# Altium schematic symbol library En.SCHLIB: 249 symbols (part 4 of 5)
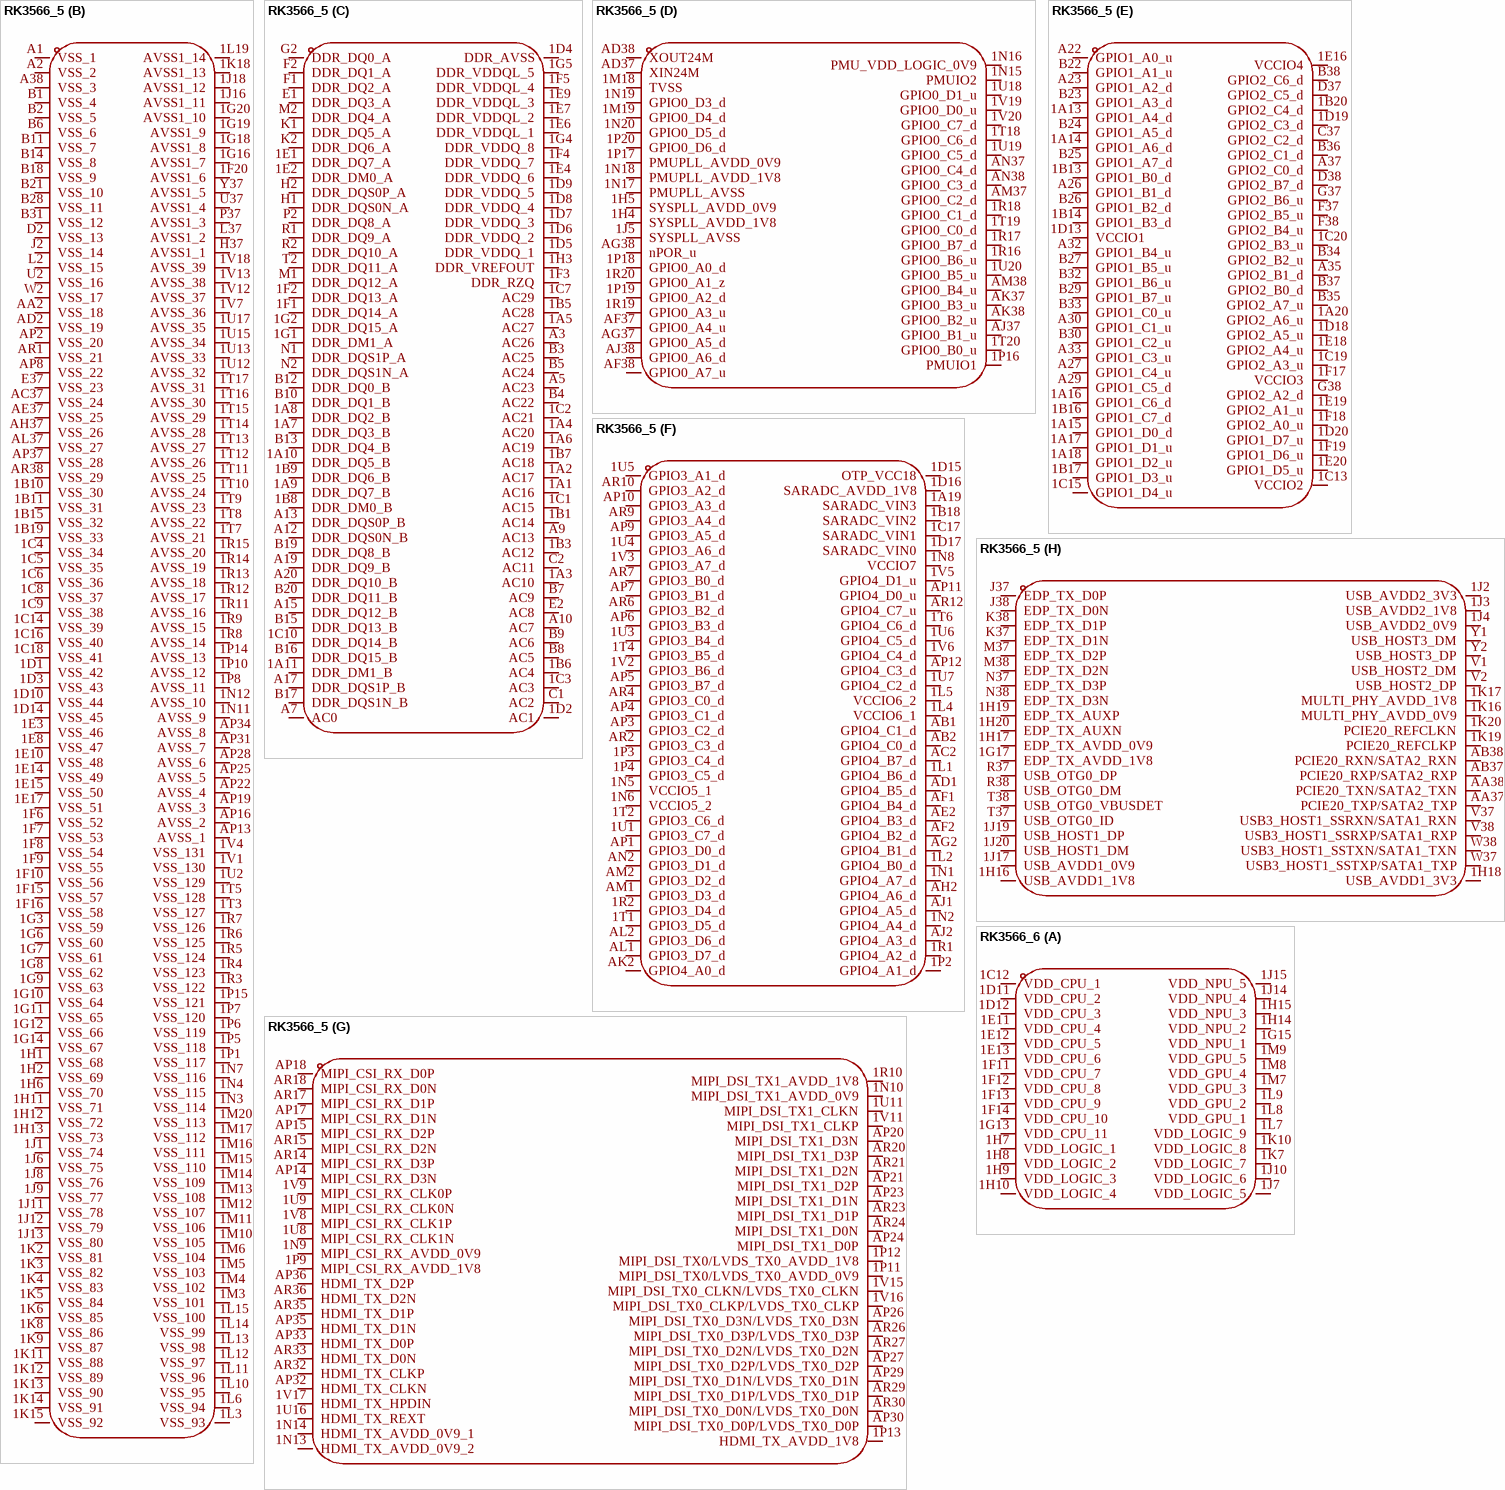
[diagram p22: symbols RK3566_5 to RK3566_6]

## RK3566_5
designator U?, comment RK3566  (value not drawn)
Manufacturer: Rockchip(瑞芯微); Add into BOM: yes; Symbol: RK3566; Device: RK3566; LCSC Part Name: RK3566; Supplier Part: C2943786; Manufacturer Part: RK3566; Supplier Footprint: BGA-565(15.5x14.4); JLCPCB Part Class: Extended Part; Datasheet: https://atta.szlcsc.com/upload/public/pdf/source/20240126/58C1D355804B22318A1D6A9C85EA3A92.pdf; Supplier: LCSC; Convert to PCB: yes
footprint BGA-565_L15.5-W14.4-P0.40_RK3566_1
3D model BGA-565_L15.5-W14.4-P0.40_RK3566_1
part A pins: 1C12 VDD_CPU_1, 1D11 VDD_CPU_2, 1D12 VDD_CPU_3, 1E11 VDD_CPU_4, 1E12 VDD_CPU_5, 1E13 VDD_CPU_6, 1F11 VDD_CPU_7, 1F12 VDD_CPU_8, 1F13 VDD_CPU_9, 1F14 VDD_CPU_10, 1G13 VDD_CPU_11, 1G15 VDD_NPU_1, 1H7 VDD_LOGIC_1, 1H8 VDD_LOGIC_2, 1H9 VDD_LOGIC_3, 1H10 VDD_LOGIC_4, 1H14 VDD_NPU_2, 1H15 VDD_NPU_3, 1J7 VDD_LOGIC_5, 1J10 VDD_LOGIC_6, 1J14 VDD_NPU_4, 1J15 VDD_NPU_5, 1K7 VDD_LOGIC_7, 1K10 VDD_LOGIC_8, 1L7 VDD_LOGIC_9, 1L8 VDD_GPU_1, 1L9 VDD_GPU_2, 1M7 VDD_GPU_3, 1M8 VDD_GPU_4, 1M9 VDD_GPU_5
part B pins: 1B10 VSS_30, 1B11 VSS_31, 1B15 VSS_32, 1B19 VSS_33, 1C4 VSS_34, 1C5 VSS_35, 1C6 VSS_36, 1C8 VSS_37, 1C9 VSS_38, 1C14 VSS_39, 1C16 VSS_40, 1C18 VSS_41, 1D1 VSS_42, 1D3 VSS_43, 1D10 VSS_44, 1D14 VSS_45, 1E3 VSS_46, 1E8 VSS_47, 1E10 VSS_48, 1E14 VSS_49, 1E15 VSS_50, 1E17 VSS_51, 1F6 VSS_52, 1F7 VSS_53, 1F8 VSS_54, 1F9 VSS_55, 1F10 VSS_56, 1F15 VSS_57, 1F16 VSS_58, 1F20 AVSS1_6, 1G3 VSS_59, 1G6 VSS_60, 1G7 VSS_61, 1G8 VSS_62, 1G9 VSS_63, 1G10 VSS_64, 1G11 VSS_65, 1G12 VSS_66, 1G14 VSS_67, 1G16 AVSS1_7, 1G18 AVSS1_8, 1G19 AVSS1_9, 1G20 AVSS1_10, 1H1 VSS_68, 1H2 VSS_69, 1H6 VSS_70, 1H11 VSS_71, 1H12 VSS_72, 1H13 VSS_73, 1J1 VSS_74, 1J6 VSS_75, 1J8 VSS_76, 1J9 VSS_77, 1J11 VSS_78, 1J12 VSS_79, 1J13 VSS_80, 1J16 AVSS1_11, 1J18 AVSS1_12, 1K2 VSS_81, 1K3 VSS_82, 1K4 VSS_83, 1K5 VSS_84, 1K6 VSS_85, 1K8 VSS_86, 1K9 VSS_87, 1K11 VSS_88, 1K12 VSS_89, 1K13 VSS_90, 1K14 VSS_91, 1K15 VSS_92, 1K18 AVSS1_13, 1L3 VSS_93, 1L6 VSS_94, 1L10 VSS_95, 1L11 VSS_96, 1L12 VSS_97, 1L13 VSS_98, 1L14 VSS_99, 1L15 VSS_100, 1L19 AVSS1_14, 1M3 VSS_101, 1M4 VSS_102, 1M5 VSS_103, 1M6 VSS_104, 1M10 VSS_105, 1M11 VSS_106, 1M12 VSS_107, 1M13 VSS_108, 1M14 VSS_109, 1M15 VSS_110, 1M16 VSS_111, 1M17 VSS_112, 1M20 VSS_113, 1N3 VSS_114, 1N4 VSS_115, 1N7 VSS_116, 1N11 AVSS_9, 1N12 AVSS_10, 1P1 VSS_117, 1P5 VSS_118, 1P6 VSS_119, 1P7 VSS_120, 1P8 AVSS_11, 1P10 AVSS_12, 1P14 AVSS_13, 1P15 VSS_121, 1R3 VSS_122, 1R4 VSS_123, 1R5 VSS_124, 1R6 VSS_125, 1R7 VSS_126, 1R8 AVSS_14, 1R9 AVSS_15, 1R11 AVSS_16, 1R12 AVSS_17, 1R13 AVSS_18, 1R14 AVSS_19, 1R15 AVSS_20, 1T3 VSS_127, 1T5 VSS_128, 1T7 AVSS_21, 1T8 AVSS_22, 1T9 AVSS_23, 1T10 AVSS_24, 1T11 AVSS_25, 1T12 AVSS_26, 1T13 AVSS_27, 1T14 AVSS_28, 1T15 AVSS_29, 1T16 AVSS_30, 1T17 AVSS_31, 1U2 VSS_129, 1U12 AVSS_32, 1U13 AVSS_33, 1U15 AVSS_34, 1U17 AVSS_35, 1V1 VSS_130, 1V4 VSS_131, 1V7 AVSS_36, 1V12 AVSS_37, 1V13 AVSS_38, 1V18 AVSS_39, A1 VSS_1, A2 VSS_2, A38 VSS_3, AA2 VSS_18, AC37 VSS_24, AD2 VSS_19, AE37 VSS_25, AH37 VSS_26, AL37 VSS_27, AP2 VSS_20, AP8 VSS_22, AP13 AVSS_1, AP16 AVSS_2, AP19 AVSS_3, AP22 AVSS_4, AP25 AVSS_5, AP28 AVSS_6, AP31 AVSS_7, AP34 AVSS_8, AP37 VSS_28, AR1 VSS_21, AR38 VSS_29, B1 VSS_4, B2 VSS_5, B6 VSS_6, B11 VSS_7, B14 VSS_8, B18 VSS_9, B21 VSS_10, B28 VSS_11, B31 VSS_12, D2 VSS_13, E37 VSS_23, H37 AVSS1_1, J2 VSS_14, L2 VSS_15, L37 AVSS1_2, P37 AVSS1_3, U2 VSS_16, U37 AVSS1_4, W2 VSS_17, Y37 AVSS1_5
part C pins: 1A1 AC16, 1A2 AC17, 1A3 AC10, 1A4 AC20, 1A5 AC27, 1A6 AC19, 1A7 DDR_DQ3_B, 1A8 DDR_DQ2_B, 1A9 DDR_DQ7_B, 1A10 DDR_DQ5_B, 1A11 DDR_DM1_B, 1B1 AC14, 1B3 AC12, 1B5 AC28, 1B6 AC4, 1B7 AC18, 1B8 DDR_DM0_B, 1B9 DDR_DQ6_B, 1C1 AC15, 1C2 AC21, 1C3 AC3, 1C7 AC29, 1C10 DDR_DQ14_B, 1D2 AC1, 1D4 DDR_AVSS, 1D5 DDR_VDDQ_1, 1D6 DDR_VDDQ_2, 1D7 DDR_VDDQ_3, 1D8 DDR_VDDQ_4, 1D9 DDR_VDDQ_5, 1E1 DDR_DQ7_A, 1E2 DDR_DM0_A, 1E4 DDR_VDDQ_6, 1E6 DDR_VDDQL_1, 1E7 DDR_VDDQL_2, 1E9 DDR_VDDQL_3, 1F1 DDR_DQ14_A, 1F2 DDR_DQ13_A, 1F3 DDR_RZQ, 1F4 DDR_VDDQ_7, 1F5 DDR_VDDQL_4, 1G1 DDR_DM1_A, 1G2 DDR_DQ15_A, 1G4 DDR_VDDQ_8, 1G5 DDR_VDDQL_5, 1H3 DDR_VREFOUT, A3 AC26, A5 AC23, A7 AC0, A9 AC13, A10 AC7, A12 DDR_DQS0N_B, A13 DDR_DQS0P_B, A15 DDR_DQ12_B, A17 DDR_DQS1P_B, A19 DDR_DQ9_B, A20 DDR_DQ10_B, B3 AC25, B4 AC22, B5 AC24, B7 AC9, B8 AC5, B9 AC6, B10 DDR_DQ1_B, B12 DDR_DQ0_B, B13 DDR_DQ4_B, B15 DDR_DQ13_B, B16 DDR_DQ15_B, B17 DDR_DQS1N_B, B19 DDR_DQ8_B, B20 DDR_DQ11_B, C1 AC2, C2 AC11, E1 DDR_DQ3_A, E2 AC8, F1 DDR_DQ2_A, F2 DDR_DQ1_A, G2 DDR_DQ0_A, H1 DDR_DQS0N_A, H2 DDR_DQS0P_A, K1 DDR_DQ5_A, K2 DDR_DQ6_A, M1 DDR_DQ12_A, M2 DDR_DQ4_A, N1 DDR_DQS1P_A, N2 DDR_DQS1N_A, P2 DDR_DQ8_A, R1 DDR_DQ9_A, R2 DDR_DQ10_A, T2 DDR_DQ11_A
part D pins: 1H4 SYSPLL_AVDD_1V8, 1H5 SYSPLL_AVDD_0V9, 1J5 SYSPLL_AVSS, 1M18 TVSS, 1M19 GPIO0_D4_d, 1N15 PMUIO2, 1N16 PMU_VDD_LOGIC_0V9, 1N17 PMUPLL_AVSS, 1N18 PMUPLL_AVDD_1V8, 1N19 GPIO0_D3_d, 1N20 GPIO0_D5_d, 1P16 PMUIO1, 1P17 PMUPLL_AVDD_0V9, 1P18 GPIO0_A0_d, 1P19 GPIO0_A2_d, 1P20 GPIO0_D6_d, 1R16 GPIO0_B6_u, 1R17 GPIO0_B7_d, 1R18 GPIO0_C1_d, 1R19 GPIO0_A3_u, 1R20 GPIO0_A1_z, 1T18 GPIO0_C6_d, 1T19 GPIO0_C0_d, 1T20 GPIO0_B0_u, 1U18 GPIO0_D1_u, 1U19 GPIO0_C5_d, 1U20 GPIO0_B5_u, 1V19 GPIO0_D0_u, 1V20 GPIO0_C7_d, AD37 XIN24M, AD38 XOUT24M, AF37 GPIO0_A4_u, AF38 GPIO0_A7_u, AG37 GPIO0_A5_d, AG38 nPOR_u, AJ37 GPIO0_B1_u, AJ38 GPIO0_A6_d, AK37 GPIO0_B3_u, AK38 GPIO0_B2_u, AM37 GPIO0_C2_d, AM38 GPIO0_B4_u, AN37 GPIO0_C4_d, AN38 GPIO0_C3_d
part E pins: 1A13 GPIO1_A4_d, 1A14 GPIO1_A6_d, 1A15 GPIO1_D0_d, 1A16 GPIO1_C6_d, 1A17 GPIO1_D1_u, 1A18 GPIO1_D2_u, 1A20 GPIO2_A6_u, 1B13 GPIO1_B0_d, 1B14 GPIO1_B3_d, 1B16 GPIO1_C7_d, 1B17 GPIO1_D3_u, 1B20 GPIO2_C4_d, 1C13 VCCIO2, 1C15 GPIO1_D4_u, 1C19 GPIO2_A3_u, 1C20 GPIO2_B3_u, 1D13 VCCIO1, 1D18 GPIO2_A5_u, 1D19 GPIO2_C3_d, 1D20 GPIO1_D7_u, 1E16 VCCIO4, 1E18 GPIO2_A4_u, 1E19 GPIO2_A1_u, 1E20 GPIO1_D5_u, 1F17 VCCIO3, 1F18 GPIO2_A0_u, 1F19 GPIO1_D6_u, A22 GPIO1_A0_u, A23 GPIO1_A2_d, A26 GPIO1_B1_d, A27 GPIO1_C4_u, A29 GPIO1_C5_d, A30 GPIO1_C1_u, A32 GPIO1_B4_u, A33 GPIO1_C3_u, A35 GPIO2_B1_d, A37 GPIO2_C0_d, B22 GPIO1_A1_u, B23 GPIO1_A3_d, B24 GPIO1_A5_d, B25 GPIO1_A7_d, B26 GPIO1_B2_d, B27 GPIO1_B5_u, B29 GPIO1_B7_u, B30 GPIO1_C2_u, B32 GPIO1_B6_u, B33 GPIO1_C0_u, B34 GPIO2_B2_u, B35 GPIO2_A7_u, B36 GPIO2_C1_d, B37 GPIO2_B0_d, B38 GPIO2_C6_d, C37 GPIO2_C2_d, D37 GPIO2_C5_d, D38 GPIO2_B7_d, F37 GPIO2_B5_u, F38 GPIO2_B4_u, G37 GPIO2_B6_u, G38 GPIO2_A2_d
part F pins: 1A19 SARADC_VIN3, 1B18 SARADC_VIN2, 1C17 SARADC_VIN1, 1D15 OTP_VCC18, 1D16 SARADC_AVDD_1V8, 1D17 SARADC_VIN0, 1L1 GPIO4_B6_d, 1L2 GPIO4_B0_d, 1L4 VCCIO6_1, 1L5 VCCIO6_2, 1N1 GPIO4_A7_d, 1N2 GPIO4_A4_d, 1N5 VCCIO5_1, 1N6 VCCIO5_2, 1N8 VCCIO7, 1P2 GPIO4_A1_d, 1P3 GPIO3_C4_d, 1P4 GPIO3_C5_d, 1R1 GPIO4_A2_d, 1R2 GPIO3_D4_d, 1T1 GPIO3_D5_d, 1T2 GPIO3_C6_d, 1T4 GPIO3_B5_d, 1T6 GPIO4_C6_d, 1U1 GPIO3_C7_d, 1U3 GPIO3_B4_d, 1U4 GPIO3_A6_d, 1U5 GPIO3_A1_d, 1U6 GPIO4_C5_d, 1U7 GPIO4_C2_d, 1V2 GPIO3_B6_d, 1V3 GPIO3_A7_d, 1V5 GPIO4_D1_u, 1V6 GPIO4_C4_d, AB1 GPIO4_C1_d, AB2 GPIO4_C0_d, AC2 GPIO4_B7_d, AD1 GPIO4_B5_d, AE2 GPIO4_B3_d, AF1 GPIO4_B4_d, AF2 GPIO4_B2_d, AG2 GPIO4_B1_d, AH2 GPIO4_A6_d, AJ1 GPIO4_A5_d, AJ2 GPIO4_A3_d, AK2 GPIO4_A0_d, AL1 GPIO3_D7_d, AL2 GPIO3_D6_d, AM1 GPIO3_D3_d, AM2 GPIO3_D2_d, AN2 GPIO3_D1_d, AP1 GPIO3_D0_d, AP3 GPIO3_C2_d, AP4 GPIO3_C1_d, AP5 GPIO3_B7_d, AP6 GPIO3_B3_d, AP7 GPIO3_B1_d, AP9 GPIO3_A5_d, AP10 GPIO3_A3_d, AP11 GPIO4_D0_u, AP12 GPIO4_C3_d, AR2 GPIO3_C3_d, AR4 GPIO3_C0_d, AR6 GPIO3_B2_d, AR7 GPIO3_B0_d, AR9 GPIO3_A4_d, AR10 GPIO3_A2_d, AR12 GPIO4_C7_u
part G pins: 1N9 MIPI_CSI_RX_AVDD_0V9, 1N10 MIPI_DSI_TX1_AVDD_0V9, 1N13 HDMI_TX_AVDD_0V9_2, 1N14 HDMI_TX_AVDD_0V9_1, 1P9 MIPI_CSI_RX_AVDD_1V8, 1P11 MIPI_DSI_TX0/LVDS_TX0_AVDD_0V9, 1P12 MIPI_DSI_TX0/LVDS_TX0_AVDD_1V8, 1P13 HDMI_TX_AVDD_1V8, 1R10 MIPI_DSI_TX1_AVDD_1V8, 1U8 MIPI_CSI_RX_CLK1N, 1U9 MIPI_CSI_RX_CLK0N, 1U11 MIPI_DSI_TX1_CLKN, 1U16 HDMI_TX_REXT, 1V8 MIPI_CSI_RX_CLK1P, 1V9 MIPI_CSI_RX_CLK0P, 1V11 MIPI_DSI_TX1_CLKP, 1V15 MIPI_DSI_TX0_CLKN/LVDS_TX0_CLKN, 1V16 MIPI_DSI_TX0_CLKP/LVDS_TX0_CLKP, 1V17 HDMI_TX_HPDIN, AP14 MIPI_CSI_RX_D3N, AP15 MIPI_CSI_RX_D2P, AP17 MIPI_CSI_RX_D1N, AP18 MIPI_CSI_RX_D0P, AP20 MIPI_DSI_TX1_D3N, AP21 MIPI_DSI_TX1_D2P, AP23 MIPI_DSI_TX1_D1N, AP24 MIPI_DSI_TX1_D0P, AP26 MIPI_DSI_TX0_D3N/LVDS_TX0_D3N, AP27 MIPI_DSI_TX0_D2P/LVDS_TX0_D2P, AP29 MIPI_DSI_TX0_D1N/LVDS_TX0_D1N, AP30 MIPI_DSI_TX0_D0P/LVDS_TX0_D0P, AP32 HDMI_TX_CLKN, AP33 HDMI_TX_D0P, AP35 HDMI_TX_D1N, AP36 HDMI_TX_D2P, AR14 MIPI_CSI_RX_D3P, AR15 MIPI_CSI_RX_D2N, AR17 MIPI_CSI_RX_D1P, AR18 MIPI_CSI_RX_D0N, AR20 MIPI_DSI_TX1_D3P, AR21 MIPI_DSI_TX1_D2N, AR23 MIPI_DSI_TX1_D1P, AR24 MIPI_DSI_TX1_D0N, AR26 MIPI_DSI_TX0_D3P/LVDS_TX0_D3P, AR27 MIPI_DSI_TX0_D2N/LVDS_TX0_D2N, AR29 MIPI_DSI_TX0_D1P/LVDS_TX0_D1P, AR30 MIPI_DSI_TX0_D0N/LVDS_TX0_D0N, AR32 HDMI_TX_CLKP, AR33 HDMI_TX_D0N, AR35 HDMI_TX_D1P, AR36 HDMI_TX_D2N
part H pins: 1G17 EDP_TX_AVDD_1V8, 1H16 USB_AVDD1_1V8, 1H17 EDP_TX_AVDD_0V9, 1H18 USB_AVDD1_3V3, 1H19 EDP_TX_AUXP, 1H20 EDP_TX_AUXN, 1J2 USB_AVDD2_3V3, 1J3 USB_AVDD2_1V8, 1J4 USB_AVDD2_0V9, 1J17 USB_AVDD1_0V9, 1J19 USB_HOST1_DP, 1J20 USB_HOST1_DM, 1K16 MULTI_PHY_AVDD_0V9, 1K17 MULTI_PHY_AVDD_1V8, 1K19 PCIE20_REFCLKP, 1K20 PCIE20_REFCLKN, AA37 PCIE20_TXP/SATA2_TXP, AA38 PCIE20_TXN/SATA2_TXN, AB37 PCIE20_RXP/SATA2_RXP, AB38 PCIE20_RXN/SATA2_RXN, J37 EDP_TX_D0P, J38 EDP_TX_D0N, K37 EDP_TX_D1N, K38 EDP_TX_D1P, M37 EDP_TX_D2P, M38 EDP_TX_D2N, N37 EDP_TX_D3P, N38 EDP_TX_D3N, R37 USB_OTG0_DP, R38 USB_OTG0_DM, T37 USB_OTG0_ID, T38 USB_OTG0_VBUSDET, V1 USB_HOST2_DM, V2 USB_HOST2_DP, V37 USB3_HOST1_SSRXN/SATA1_RXN, V38 USB3_HOST1_SSRXP/SATA1_RXP, W37 USB3_HOST1_SSTXP/SATA1_TXP, W38 USB3_HOST1_SSTXN/SATA1_TXN, Y1 USB_HOST3_DM, Y2 USB_HOST3_DP

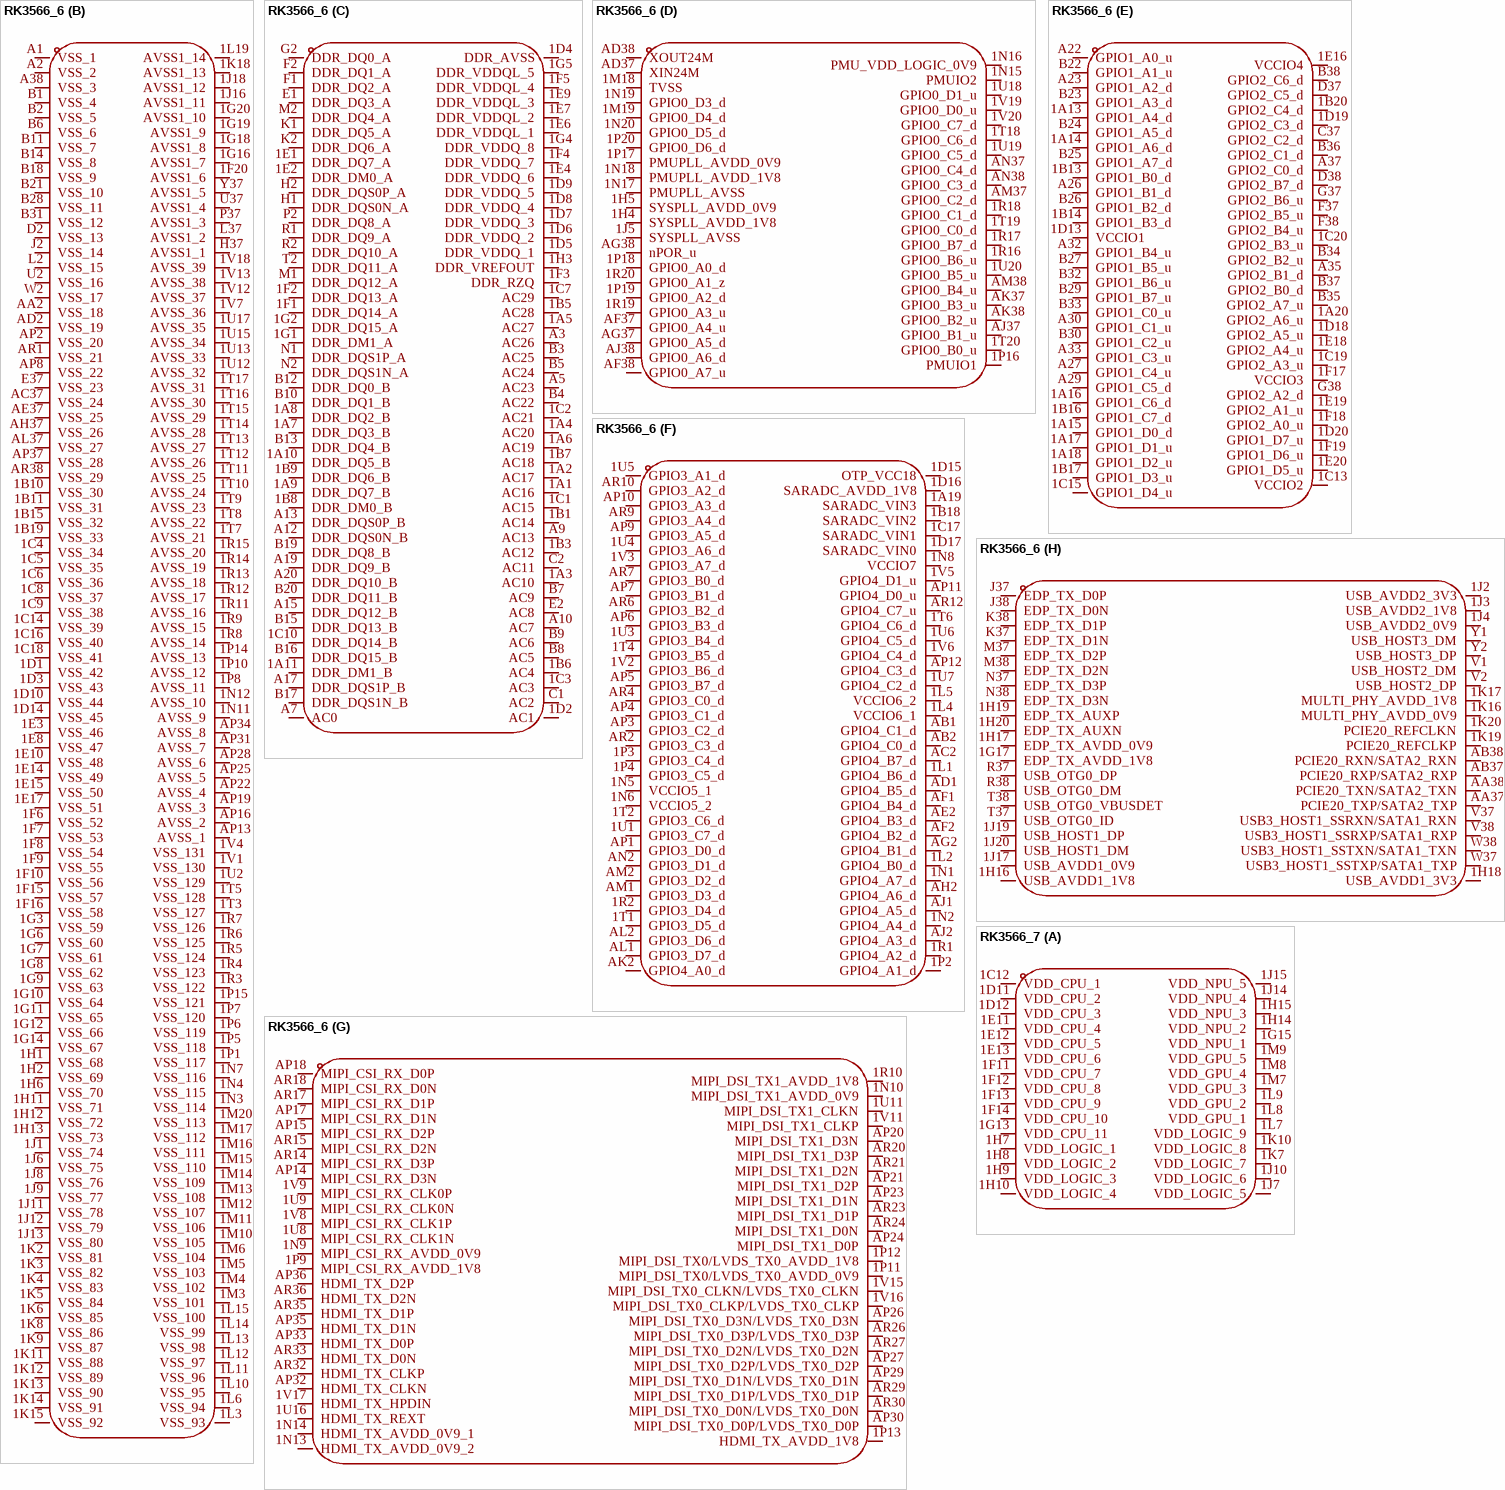
[diagram p13: symbols RK3566_6 to RK3566_7]

## RK3566_6
designator U?, comment RK3566  (value not drawn)
Manufacturer: Rockchip(瑞芯微); Add into BOM: yes; Symbol: RK3566; Device: RK3566; LCSC Part Name: RK3566; Supplier Part: C2943786; Manufacturer Part: RK3566; Supplier Footprint: BGA-565(15.5x14.4); JLCPCB Part Class: Extended Part; Datasheet: https://atta.szlcsc.com/upload/public/pdf/source/20240126/58C1D355804B22318A1D6A9C85EA3A92.pdf; Supplier: LCSC; Convert to PCB: yes
footprint BGA-565_L15.5-W14.4-P0.40_RK3566_1
3D model BGA-565_L15.5-W14.4-P0.40_RK3566_1
part A pins: 1C12 VDD_CPU_1, 1D11 VDD_CPU_2, 1D12 VDD_CPU_3, 1E11 VDD_CPU_4, 1E12 VDD_CPU_5, 1E13 VDD_CPU_6, 1F11 VDD_CPU_7, 1F12 VDD_CPU_8, 1F13 VDD_CPU_9, 1F14 VDD_CPU_10, 1G13 VDD_CPU_11, 1G15 VDD_NPU_1, 1H7 VDD_LOGIC_1, 1H8 VDD_LOGIC_2, 1H9 VDD_LOGIC_3, 1H10 VDD_LOGIC_4, 1H14 VDD_NPU_2, 1H15 VDD_NPU_3, 1J7 VDD_LOGIC_5, 1J10 VDD_LOGIC_6, 1J14 VDD_NPU_4, 1J15 VDD_NPU_5, 1K7 VDD_LOGIC_7, 1K10 VDD_LOGIC_8, 1L7 VDD_LOGIC_9, 1L8 VDD_GPU_1, 1L9 VDD_GPU_2, 1M7 VDD_GPU_3, 1M8 VDD_GPU_4, 1M9 VDD_GPU_5
part B pins: 1B10 VSS_30, 1B11 VSS_31, 1B15 VSS_32, 1B19 VSS_33, 1C4 VSS_34, 1C5 VSS_35, 1C6 VSS_36, 1C8 VSS_37, 1C9 VSS_38, 1C14 VSS_39, 1C16 VSS_40, 1C18 VSS_41, 1D1 VSS_42, 1D3 VSS_43, 1D10 VSS_44, 1D14 VSS_45, 1E3 VSS_46, 1E8 VSS_47, 1E10 VSS_48, 1E14 VSS_49, 1E15 VSS_50, 1E17 VSS_51, 1F6 VSS_52, 1F7 VSS_53, 1F8 VSS_54, 1F9 VSS_55, 1F10 VSS_56, 1F15 VSS_57, 1F16 VSS_58, 1F20 AVSS1_6, 1G3 VSS_59, 1G6 VSS_60, 1G7 VSS_61, 1G8 VSS_62, 1G9 VSS_63, 1G10 VSS_64, 1G11 VSS_65, 1G12 VSS_66, 1G14 VSS_67, 1G16 AVSS1_7, 1G18 AVSS1_8, 1G19 AVSS1_9, 1G20 AVSS1_10, 1H1 VSS_68, 1H2 VSS_69, 1H6 VSS_70, 1H11 VSS_71, 1H12 VSS_72, 1H13 VSS_73, 1J1 VSS_74, 1J6 VSS_75, 1J8 VSS_76, 1J9 VSS_77, 1J11 VSS_78, 1J12 VSS_79, 1J13 VSS_80, 1J16 AVSS1_11, 1J18 AVSS1_12, 1K2 VSS_81, 1K3 VSS_82, 1K4 VSS_83, 1K5 VSS_84, 1K6 VSS_85, 1K8 VSS_86, 1K9 VSS_87, 1K11 VSS_88, 1K12 VSS_89, 1K13 VSS_90, 1K14 VSS_91, 1K15 VSS_92, 1K18 AVSS1_13, 1L3 VSS_93, 1L6 VSS_94, 1L10 VSS_95, 1L11 VSS_96, 1L12 VSS_97, 1L13 VSS_98, 1L14 VSS_99, 1L15 VSS_100, 1L19 AVSS1_14, 1M3 VSS_101, 1M4 VSS_102, 1M5 VSS_103, 1M6 VSS_104, 1M10 VSS_105, 1M11 VSS_106, 1M12 VSS_107, 1M13 VSS_108, 1M14 VSS_109, 1M15 VSS_110, 1M16 VSS_111, 1M17 VSS_112, 1M20 VSS_113, 1N3 VSS_114, 1N4 VSS_115, 1N7 VSS_116, 1N11 AVSS_9, 1N12 AVSS_10, 1P1 VSS_117, 1P5 VSS_118, 1P6 VSS_119, 1P7 VSS_120, 1P8 AVSS_11, 1P10 AVSS_12, 1P14 AVSS_13, 1P15 VSS_121, 1R3 VSS_122, 1R4 VSS_123, 1R5 VSS_124, 1R6 VSS_125, 1R7 VSS_126, 1R8 AVSS_14, 1R9 AVSS_15, 1R11 AVSS_16, 1R12 AVSS_17, 1R13 AVSS_18, 1R14 AVSS_19, 1R15 AVSS_20, 1T3 VSS_127, 1T5 VSS_128, 1T7 AVSS_21, 1T8 AVSS_22, 1T9 AVSS_23, 1T10 AVSS_24, 1T11 AVSS_25, 1T12 AVSS_26, 1T13 AVSS_27, 1T14 AVSS_28, 1T15 AVSS_29, 1T16 AVSS_30, 1T17 AVSS_31, 1U2 VSS_129, 1U12 AVSS_32, 1U13 AVSS_33, 1U15 AVSS_34, 1U17 AVSS_35, 1V1 VSS_130, 1V4 VSS_131, 1V7 AVSS_36, 1V12 AVSS_37, 1V13 AVSS_38, 1V18 AVSS_39, A1 VSS_1, A2 VSS_2, A38 VSS_3, AA2 VSS_18, AC37 VSS_24, AD2 VSS_19, AE37 VSS_25, AH37 VSS_26, AL37 VSS_27, AP2 VSS_20, AP8 VSS_22, AP13 AVSS_1, AP16 AVSS_2, AP19 AVSS_3, AP22 AVSS_4, AP25 AVSS_5, AP28 AVSS_6, AP31 AVSS_7, AP34 AVSS_8, AP37 VSS_28, AR1 VSS_21, AR38 VSS_29, B1 VSS_4, B2 VSS_5, B6 VSS_6, B11 VSS_7, B14 VSS_8, B18 VSS_9, B21 VSS_10, B28 VSS_11, B31 VSS_12, D2 VSS_13, E37 VSS_23, H37 AVSS1_1, J2 VSS_14, L2 VSS_15, L37 AVSS1_2, P37 AVSS1_3, U2 VSS_16, U37 AVSS1_4, W2 VSS_17, Y37 AVSS1_5
part C pins: 1A1 AC16, 1A2 AC17, 1A3 AC10, 1A4 AC20, 1A5 AC27, 1A6 AC19, 1A7 DDR_DQ3_B, 1A8 DDR_DQ2_B, 1A9 DDR_DQ7_B, 1A10 DDR_DQ5_B, 1A11 DDR_DM1_B, 1B1 AC14, 1B3 AC12, 1B5 AC28, 1B6 AC4, 1B7 AC18, 1B8 DDR_DM0_B, 1B9 DDR_DQ6_B, 1C1 AC15, 1C2 AC21, 1C3 AC3, 1C7 AC29, 1C10 DDR_DQ14_B, 1D2 AC1, 1D4 DDR_AVSS, 1D5 DDR_VDDQ_1, 1D6 DDR_VDDQ_2, 1D7 DDR_VDDQ_3, 1D8 DDR_VDDQ_4, 1D9 DDR_VDDQ_5, 1E1 DDR_DQ7_A, 1E2 DDR_DM0_A, 1E4 DDR_VDDQ_6, 1E6 DDR_VDDQL_1, 1E7 DDR_VDDQL_2, 1E9 DDR_VDDQL_3, 1F1 DDR_DQ14_A, 1F2 DDR_DQ13_A, 1F3 DDR_RZQ, 1F4 DDR_VDDQ_7, 1F5 DDR_VDDQL_4, 1G1 DDR_DM1_A, 1G2 DDR_DQ15_A, 1G4 DDR_VDDQ_8, 1G5 DDR_VDDQL_5, 1H3 DDR_VREFOUT, A3 AC26, A5 AC23, A7 AC0, A9 AC13, A10 AC7, A12 DDR_DQS0N_B, A13 DDR_DQS0P_B, A15 DDR_DQ12_B, A17 DDR_DQS1P_B, A19 DDR_DQ9_B, A20 DDR_DQ10_B, B3 AC25, B4 AC22, B5 AC24, B7 AC9, B8 AC5, B9 AC6, B10 DDR_DQ1_B, B12 DDR_DQ0_B, B13 DDR_DQ4_B, B15 DDR_DQ13_B, B16 DDR_DQ15_B, B17 DDR_DQS1N_B, B19 DDR_DQ8_B, B20 DDR_DQ11_B, C1 AC2, C2 AC11, E1 DDR_DQ3_A, E2 AC8, F1 DDR_DQ2_A, F2 DDR_DQ1_A, G2 DDR_DQ0_A, H1 DDR_DQS0N_A, H2 DDR_DQS0P_A, K1 DDR_DQ5_A, K2 DDR_DQ6_A, M1 DDR_DQ12_A, M2 DDR_DQ4_A, N1 DDR_DQS1P_A, N2 DDR_DQS1N_A, P2 DDR_DQ8_A, R1 DDR_DQ9_A, R2 DDR_DQ10_A, T2 DDR_DQ11_A
part D pins: 1H4 SYSPLL_AVDD_1V8, 1H5 SYSPLL_AVDD_0V9, 1J5 SYSPLL_AVSS, 1M18 TVSS, 1M19 GPIO0_D4_d, 1N15 PMUIO2, 1N16 PMU_VDD_LOGIC_0V9, 1N17 PMUPLL_AVSS, 1N18 PMUPLL_AVDD_1V8, 1N19 GPIO0_D3_d, 1N20 GPIO0_D5_d, 1P16 PMUIO1, 1P17 PMUPLL_AVDD_0V9, 1P18 GPIO0_A0_d, 1P19 GPIO0_A2_d, 1P20 GPIO0_D6_d, 1R16 GPIO0_B6_u, 1R17 GPIO0_B7_d, 1R18 GPIO0_C1_d, 1R19 GPIO0_A3_u, 1R20 GPIO0_A1_z, 1T18 GPIO0_C6_d, 1T19 GPIO0_C0_d, 1T20 GPIO0_B0_u, 1U18 GPIO0_D1_u, 1U19 GPIO0_C5_d, 1U20 GPIO0_B5_u, 1V19 GPIO0_D0_u, 1V20 GPIO0_C7_d, AD37 XIN24M, AD38 XOUT24M, AF37 GPIO0_A4_u, AF38 GPIO0_A7_u, AG37 GPIO0_A5_d, AG38 nPOR_u, AJ37 GPIO0_B1_u, AJ38 GPIO0_A6_d, AK37 GPIO0_B3_u, AK38 GPIO0_B2_u, AM37 GPIO0_C2_d, AM38 GPIO0_B4_u, AN37 GPIO0_C4_d, AN38 GPIO0_C3_d
part E pins: 1A13 GPIO1_A4_d, 1A14 GPIO1_A6_d, 1A15 GPIO1_D0_d, 1A16 GPIO1_C6_d, 1A17 GPIO1_D1_u, 1A18 GPIO1_D2_u, 1A20 GPIO2_A6_u, 1B13 GPIO1_B0_d, 1B14 GPIO1_B3_d, 1B16 GPIO1_C7_d, 1B17 GPIO1_D3_u, 1B20 GPIO2_C4_d, 1C13 VCCIO2, 1C15 GPIO1_D4_u, 1C19 GPIO2_A3_u, 1C20 GPIO2_B3_u, 1D13 VCCIO1, 1D18 GPIO2_A5_u, 1D19 GPIO2_C3_d, 1D20 GPIO1_D7_u, 1E16 VCCIO4, 1E18 GPIO2_A4_u, 1E19 GPIO2_A1_u, 1E20 GPIO1_D5_u, 1F17 VCCIO3, 1F18 GPIO2_A0_u, 1F19 GPIO1_D6_u, A22 GPIO1_A0_u, A23 GPIO1_A2_d, A26 GPIO1_B1_d, A27 GPIO1_C4_u, A29 GPIO1_C5_d, A30 GPIO1_C1_u, A32 GPIO1_B4_u, A33 GPIO1_C3_u, A35 GPIO2_B1_d, A37 GPIO2_C0_d, B22 GPIO1_A1_u, B23 GPIO1_A3_d, B24 GPIO1_A5_d, B25 GPIO1_A7_d, B26 GPIO1_B2_d, B27 GPIO1_B5_u, B29 GPIO1_B7_u, B30 GPIO1_C2_u, B32 GPIO1_B6_u, B33 GPIO1_C0_u, B34 GPIO2_B2_u, B35 GPIO2_A7_u, B36 GPIO2_C1_d, B37 GPIO2_B0_d, B38 GPIO2_C6_d, C37 GPIO2_C2_d, D37 GPIO2_C5_d, D38 GPIO2_B7_d, F37 GPIO2_B5_u, F38 GPIO2_B4_u, G37 GPIO2_B6_u, G38 GPIO2_A2_d
part F pins: 1A19 SARADC_VIN3, 1B18 SARADC_VIN2, 1C17 SARADC_VIN1, 1D15 OTP_VCC18, 1D16 SARADC_AVDD_1V8, 1D17 SARADC_VIN0, 1L1 GPIO4_B6_d, 1L2 GPIO4_B0_d, 1L4 VCCIO6_1, 1L5 VCCIO6_2, 1N1 GPIO4_A7_d, 1N2 GPIO4_A4_d, 1N5 VCCIO5_1, 1N6 VCCIO5_2, 1N8 VCCIO7, 1P2 GPIO4_A1_d, 1P3 GPIO3_C4_d, 1P4 GPIO3_C5_d, 1R1 GPIO4_A2_d, 1R2 GPIO3_D4_d, 1T1 GPIO3_D5_d, 1T2 GPIO3_C6_d, 1T4 GPIO3_B5_d, 1T6 GPIO4_C6_d, 1U1 GPIO3_C7_d, 1U3 GPIO3_B4_d, 1U4 GPIO3_A6_d, 1U5 GPIO3_A1_d, 1U6 GPIO4_C5_d, 1U7 GPIO4_C2_d, 1V2 GPIO3_B6_d, 1V3 GPIO3_A7_d, 1V5 GPIO4_D1_u, 1V6 GPIO4_C4_d, AB1 GPIO4_C1_d, AB2 GPIO4_C0_d, AC2 GPIO4_B7_d, AD1 GPIO4_B5_d, AE2 GPIO4_B3_d, AF1 GPIO4_B4_d, AF2 GPIO4_B2_d, AG2 GPIO4_B1_d, AH2 GPIO4_A6_d, AJ1 GPIO4_A5_d, AJ2 GPIO4_A3_d, AK2 GPIO4_A0_d, AL1 GPIO3_D7_d, AL2 GPIO3_D6_d, AM1 GPIO3_D3_d, AM2 GPIO3_D2_d, AN2 GPIO3_D1_d, AP1 GPIO3_D0_d, AP3 GPIO3_C2_d, AP4 GPIO3_C1_d, AP5 GPIO3_B7_d, AP6 GPIO3_B3_d, AP7 GPIO3_B1_d, AP9 GPIO3_A5_d, AP10 GPIO3_A3_d, AP11 GPIO4_D0_u, AP12 GPIO4_C3_d, AR2 GPIO3_C3_d, AR4 GPIO3_C0_d, AR6 GPIO3_B2_d, AR7 GPIO3_B0_d, AR9 GPIO3_A4_d, AR10 GPIO3_A2_d, AR12 GPIO4_C7_u
part G pins: 1N9 MIPI_CSI_RX_AVDD_0V9, 1N10 MIPI_DSI_TX1_AVDD_0V9, 1N13 HDMI_TX_AVDD_0V9_2, 1N14 HDMI_TX_AVDD_0V9_1, 1P9 MIPI_CSI_RX_AVDD_1V8, 1P11 MIPI_DSI_TX0/LVDS_TX0_AVDD_0V9, 1P12 MIPI_DSI_TX0/LVDS_TX0_AVDD_1V8, 1P13 HDMI_TX_AVDD_1V8, 1R10 MIPI_DSI_TX1_AVDD_1V8, 1U8 MIPI_CSI_RX_CLK1N, 1U9 MIPI_CSI_RX_CLK0N, 1U11 MIPI_DSI_TX1_CLKN, 1U16 HDMI_TX_REXT, 1V8 MIPI_CSI_RX_CLK1P, 1V9 MIPI_CSI_RX_CLK0P, 1V11 MIPI_DSI_TX1_CLKP, 1V15 MIPI_DSI_TX0_CLKN/LVDS_TX0_CLKN, 1V16 MIPI_DSI_TX0_CLKP/LVDS_TX0_CLKP, 1V17 HDMI_TX_HPDIN, AP14 MIPI_CSI_RX_D3N, AP15 MIPI_CSI_RX_D2P, AP17 MIPI_CSI_RX_D1N, AP18 MIPI_CSI_RX_D0P, AP20 MIPI_DSI_TX1_D3N, AP21 MIPI_DSI_TX1_D2P, AP23 MIPI_DSI_TX1_D1N, AP24 MIPI_DSI_TX1_D0P, AP26 MIPI_DSI_TX0_D3N/LVDS_TX0_D3N, AP27 MIPI_DSI_TX0_D2P/LVDS_TX0_D2P, AP29 MIPI_DSI_TX0_D1N/LVDS_TX0_D1N, AP30 MIPI_DSI_TX0_D0P/LVDS_TX0_D0P, AP32 HDMI_TX_CLKN, AP33 HDMI_TX_D0P, AP35 HDMI_TX_D1N, AP36 HDMI_TX_D2P, AR14 MIPI_CSI_RX_D3P, AR15 MIPI_CSI_RX_D2N, AR17 MIPI_CSI_RX_D1P, AR18 MIPI_CSI_RX_D0N, AR20 MIPI_DSI_TX1_D3P, AR21 MIPI_DSI_TX1_D2N, AR23 MIPI_DSI_TX1_D1P, AR24 MIPI_DSI_TX1_D0N, AR26 MIPI_DSI_TX0_D3P/LVDS_TX0_D3P, AR27 MIPI_DSI_TX0_D2N/LVDS_TX0_D2N, AR29 MIPI_DSI_TX0_D1P/LVDS_TX0_D1P, AR30 MIPI_DSI_TX0_D0N/LVDS_TX0_D0N, AR32 HDMI_TX_CLKP, AR33 HDMI_TX_D0N, AR35 HDMI_TX_D1P, AR36 HDMI_TX_D2N
part H pins: 1G17 EDP_TX_AVDD_1V8, 1H16 USB_AVDD1_1V8, 1H17 EDP_TX_AVDD_0V9, 1H18 USB_AVDD1_3V3, 1H19 EDP_TX_AUXP, 1H20 EDP_TX_AUXN, 1J2 USB_AVDD2_3V3, 1J3 USB_AVDD2_1V8, 1J4 USB_AVDD2_0V9, 1J17 USB_AVDD1_0V9, 1J19 USB_HOST1_DP, 1J20 USB_HOST1_DM, 1K16 MULTI_PHY_AVDD_0V9, 1K17 MULTI_PHY_AVDD_1V8, 1K19 PCIE20_REFCLKP, 1K20 PCIE20_REFCLKN, AA37 PCIE20_TXP/SATA2_TXP, AA38 PCIE20_TXN/SATA2_TXN, AB37 PCIE20_RXP/SATA2_RXP, AB38 PCIE20_RXN/SATA2_RXN, J37 EDP_TX_D0P, J38 EDP_TX_D0N, K37 EDP_TX_D1N, K38 EDP_TX_D1P, M37 EDP_TX_D2P, M38 EDP_TX_D2N, N37 EDP_TX_D3P, N38 EDP_TX_D3N, R37 USB_OTG0_DP, R38 USB_OTG0_DM, T37 USB_OTG0_ID, T38 USB_OTG0_VBUSDET, V1 USB_HOST2_DM, V2 USB_HOST2_DP, V37 USB3_HOST1_SSRXN/SATA1_RXN, V38 USB3_HOST1_SSRXP/SATA1_RXP, W37 USB3_HOST1_SSTXP/SATA1_TXP, W38 USB3_HOST1_SSTXN/SATA1_TXN, Y1 USB_HOST3_DM, Y2 USB_HOST3_DP

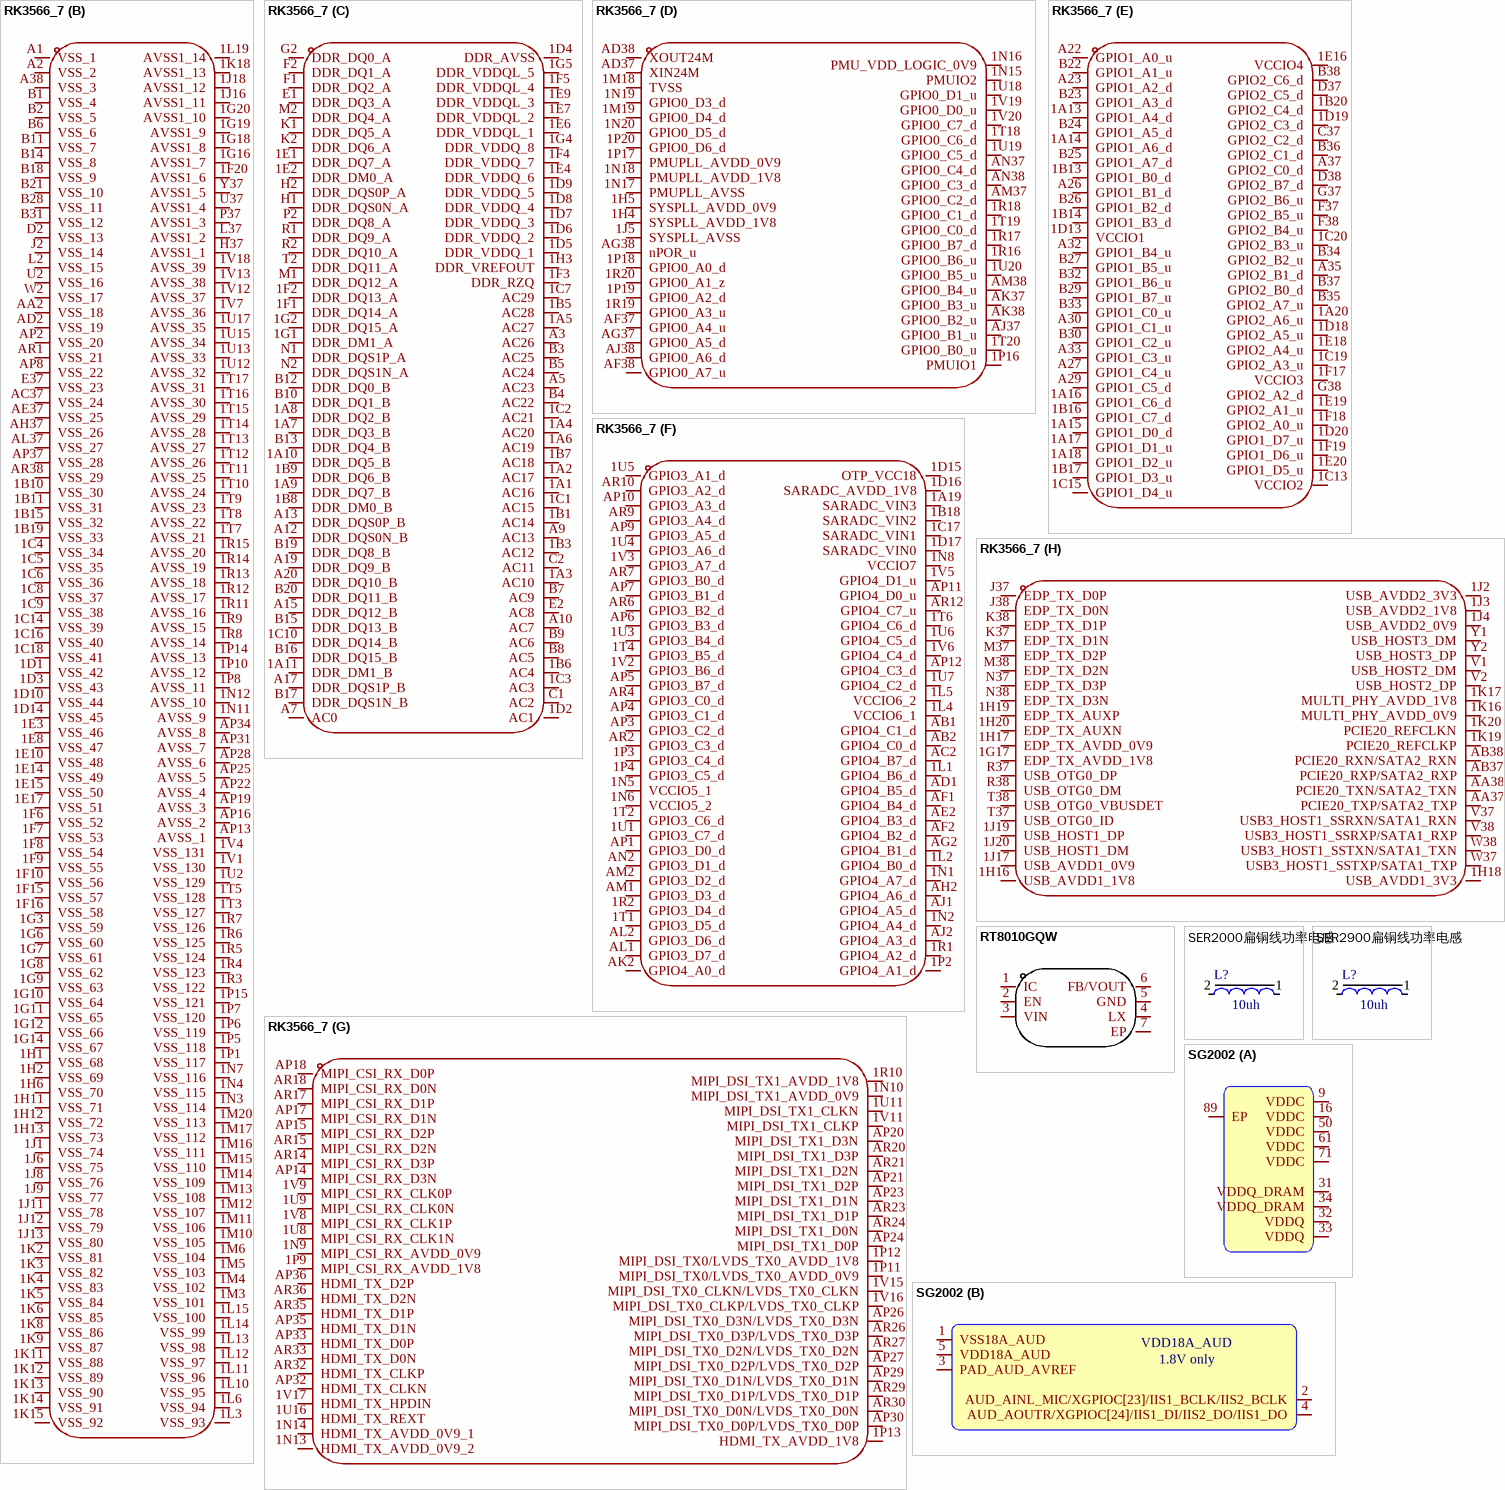
[diagram p14: symbols RK3566_7 to SG2002]

## RK3566_7
designator U?, comment RK3566  (value not drawn)
Manufacturer: Rockchip(瑞芯微); Add into BOM: yes; Symbol: RK3566; Device: RK3566; LCSC Part Name: RK3566; Supplier Part: C2943786; Manufacturer Part: RK3566; Supplier Footprint: BGA-565(15.5x14.4); JLCPCB Part Class: Extended Part; Datasheet: https://atta.szlcsc.com/upload/public/pdf/source/20240126/58C1D355804B22318A1D6A9C85EA3A92.pdf; Supplier: LCSC; Convert to PCB: yes
footprint BGA-565_L15.5-W14.4-P0.40_RK3566_1
3D model BGA-565_L15.5-W14.4-P0.40_RK3566_1
part A pins: 1C12 VDD_CPU_1, 1D11 VDD_CPU_2, 1D12 VDD_CPU_3, 1E11 VDD_CPU_4, 1E12 VDD_CPU_5, 1E13 VDD_CPU_6, 1F11 VDD_CPU_7, 1F12 VDD_CPU_8, 1F13 VDD_CPU_9, 1F14 VDD_CPU_10, 1G13 VDD_CPU_11, 1G15 VDD_NPU_1, 1H7 VDD_LOGIC_1, 1H8 VDD_LOGIC_2, 1H9 VDD_LOGIC_3, 1H10 VDD_LOGIC_4, 1H14 VDD_NPU_2, 1H15 VDD_NPU_3, 1J7 VDD_LOGIC_5, 1J10 VDD_LOGIC_6, 1J14 VDD_NPU_4, 1J15 VDD_NPU_5, 1K7 VDD_LOGIC_7, 1K10 VDD_LOGIC_8, 1L7 VDD_LOGIC_9, 1L8 VDD_GPU_1, 1L9 VDD_GPU_2, 1M7 VDD_GPU_3, 1M8 VDD_GPU_4, 1M9 VDD_GPU_5
part B pins: 1B10 VSS_30, 1B11 VSS_31, 1B15 VSS_32, 1B19 VSS_33, 1C4 VSS_34, 1C5 VSS_35, 1C6 VSS_36, 1C8 VSS_37, 1C9 VSS_38, 1C14 VSS_39, 1C16 VSS_40, 1C18 VSS_41, 1D1 VSS_42, 1D3 VSS_43, 1D10 VSS_44, 1D14 VSS_45, 1E3 VSS_46, 1E8 VSS_47, 1E10 VSS_48, 1E14 VSS_49, 1E15 VSS_50, 1E17 VSS_51, 1F6 VSS_52, 1F7 VSS_53, 1F8 VSS_54, 1F9 VSS_55, 1F10 VSS_56, 1F15 VSS_57, 1F16 VSS_58, 1F20 AVSS1_6, 1G3 VSS_59, 1G6 VSS_60, 1G7 VSS_61, 1G8 VSS_62, 1G9 VSS_63, 1G10 VSS_64, 1G11 VSS_65, 1G12 VSS_66, 1G14 VSS_67, 1G16 AVSS1_7, 1G18 AVSS1_8, 1G19 AVSS1_9, 1G20 AVSS1_10, 1H1 VSS_68, 1H2 VSS_69, 1H6 VSS_70, 1H11 VSS_71, 1H12 VSS_72, 1H13 VSS_73, 1J1 VSS_74, 1J6 VSS_75, 1J8 VSS_76, 1J9 VSS_77, 1J11 VSS_78, 1J12 VSS_79, 1J13 VSS_80, 1J16 AVSS1_11, 1J18 AVSS1_12, 1K2 VSS_81, 1K3 VSS_82, 1K4 VSS_83, 1K5 VSS_84, 1K6 VSS_85, 1K8 VSS_86, 1K9 VSS_87, 1K11 VSS_88, 1K12 VSS_89, 1K13 VSS_90, 1K14 VSS_91, 1K15 VSS_92, 1K18 AVSS1_13, 1L3 VSS_93, 1L6 VSS_94, 1L10 VSS_95, 1L11 VSS_96, 1L12 VSS_97, 1L13 VSS_98, 1L14 VSS_99, 1L15 VSS_100, 1L19 AVSS1_14, 1M3 VSS_101, 1M4 VSS_102, 1M5 VSS_103, 1M6 VSS_104, 1M10 VSS_105, 1M11 VSS_106, 1M12 VSS_107, 1M13 VSS_108, 1M14 VSS_109, 1M15 VSS_110, 1M16 VSS_111, 1M17 VSS_112, 1M20 VSS_113, 1N3 VSS_114, 1N4 VSS_115, 1N7 VSS_116, 1N11 AVSS_9, 1N12 AVSS_10, 1P1 VSS_117, 1P5 VSS_118, 1P6 VSS_119, 1P7 VSS_120, 1P8 AVSS_11, 1P10 AVSS_12, 1P14 AVSS_13, 1P15 VSS_121, 1R3 VSS_122, 1R4 VSS_123, 1R5 VSS_124, 1R6 VSS_125, 1R7 VSS_126, 1R8 AVSS_14, 1R9 AVSS_15, 1R11 AVSS_16, 1R12 AVSS_17, 1R13 AVSS_18, 1R14 AVSS_19, 1R15 AVSS_20, 1T3 VSS_127, 1T5 VSS_128, 1T7 AVSS_21, 1T8 AVSS_22, 1T9 AVSS_23, 1T10 AVSS_24, 1T11 AVSS_25, 1T12 AVSS_26, 1T13 AVSS_27, 1T14 AVSS_28, 1T15 AVSS_29, 1T16 AVSS_30, 1T17 AVSS_31, 1U2 VSS_129, 1U12 AVSS_32, 1U13 AVSS_33, 1U15 AVSS_34, 1U17 AVSS_35, 1V1 VSS_130, 1V4 VSS_131, 1V7 AVSS_36, 1V12 AVSS_37, 1V13 AVSS_38, 1V18 AVSS_39, A1 VSS_1, A2 VSS_2, A38 VSS_3, AA2 VSS_18, AC37 VSS_24, AD2 VSS_19, AE37 VSS_25, AH37 VSS_26, AL37 VSS_27, AP2 VSS_20, AP8 VSS_22, AP13 AVSS_1, AP16 AVSS_2, AP19 AVSS_3, AP22 AVSS_4, AP25 AVSS_5, AP28 AVSS_6, AP31 AVSS_7, AP34 AVSS_8, AP37 VSS_28, AR1 VSS_21, AR38 VSS_29, B1 VSS_4, B2 VSS_5, B6 VSS_6, B11 VSS_7, B14 VSS_8, B18 VSS_9, B21 VSS_10, B28 VSS_11, B31 VSS_12, D2 VSS_13, E37 VSS_23, H37 AVSS1_1, J2 VSS_14, L2 VSS_15, L37 AVSS1_2, P37 AVSS1_3, U2 VSS_16, U37 AVSS1_4, W2 VSS_17, Y37 AVSS1_5
part C pins: 1A1 AC16, 1A2 AC17, 1A3 AC10, 1A4 AC20, 1A5 AC27, 1A6 AC19, 1A7 DDR_DQ3_B, 1A8 DDR_DQ2_B, 1A9 DDR_DQ7_B, 1A10 DDR_DQ5_B, 1A11 DDR_DM1_B, 1B1 AC14, 1B3 AC12, 1B5 AC28, 1B6 AC4, 1B7 AC18, 1B8 DDR_DM0_B, 1B9 DDR_DQ6_B, 1C1 AC15, 1C2 AC21, 1C3 AC3, 1C7 AC29, 1C10 DDR_DQ14_B, 1D2 AC1, 1D4 DDR_AVSS, 1D5 DDR_VDDQ_1, 1D6 DDR_VDDQ_2, 1D7 DDR_VDDQ_3, 1D8 DDR_VDDQ_4, 1D9 DDR_VDDQ_5, 1E1 DDR_DQ7_A, 1E2 DDR_DM0_A, 1E4 DDR_VDDQ_6, 1E6 DDR_VDDQL_1, 1E7 DDR_VDDQL_2, 1E9 DDR_VDDQL_3, 1F1 DDR_DQ14_A, 1F2 DDR_DQ13_A, 1F3 DDR_RZQ, 1F4 DDR_VDDQ_7, 1F5 DDR_VDDQL_4, 1G1 DDR_DM1_A, 1G2 DDR_DQ15_A, 1G4 DDR_VDDQ_8, 1G5 DDR_VDDQL_5, 1H3 DDR_VREFOUT, A3 AC26, A5 AC23, A7 AC0, A9 AC13, A10 AC7, A12 DDR_DQS0N_B, A13 DDR_DQS0P_B, A15 DDR_DQ12_B, A17 DDR_DQS1P_B, A19 DDR_DQ9_B, A20 DDR_DQ10_B, B3 AC25, B4 AC22, B5 AC24, B7 AC9, B8 AC5, B9 AC6, B10 DDR_DQ1_B, B12 DDR_DQ0_B, B13 DDR_DQ4_B, B15 DDR_DQ13_B, B16 DDR_DQ15_B, B17 DDR_DQS1N_B, B19 DDR_DQ8_B, B20 DDR_DQ11_B, C1 AC2, C2 AC11, E1 DDR_DQ3_A, E2 AC8, F1 DDR_DQ2_A, F2 DDR_DQ1_A, G2 DDR_DQ0_A, H1 DDR_DQS0N_A, H2 DDR_DQS0P_A, K1 DDR_DQ5_A, K2 DDR_DQ6_A, M1 DDR_DQ12_A, M2 DDR_DQ4_A, N1 DDR_DQS1P_A, N2 DDR_DQS1N_A, P2 DDR_DQ8_A, R1 DDR_DQ9_A, R2 DDR_DQ10_A, T2 DDR_DQ11_A
part D pins: 1H4 SYSPLL_AVDD_1V8, 1H5 SYSPLL_AVDD_0V9, 1J5 SYSPLL_AVSS, 1M18 TVSS, 1M19 GPIO0_D4_d, 1N15 PMUIO2, 1N16 PMU_VDD_LOGIC_0V9, 1N17 PMUPLL_AVSS, 1N18 PMUPLL_AVDD_1V8, 1N19 GPIO0_D3_d, 1N20 GPIO0_D5_d, 1P16 PMUIO1, 1P17 PMUPLL_AVDD_0V9, 1P18 GPIO0_A0_d, 1P19 GPIO0_A2_d, 1P20 GPIO0_D6_d, 1R16 GPIO0_B6_u, 1R17 GPIO0_B7_d, 1R18 GPIO0_C1_d, 1R19 GPIO0_A3_u, 1R20 GPIO0_A1_z, 1T18 GPIO0_C6_d, 1T19 GPIO0_C0_d, 1T20 GPIO0_B0_u, 1U18 GPIO0_D1_u, 1U19 GPIO0_C5_d, 1U20 GPIO0_B5_u, 1V19 GPIO0_D0_u, 1V20 GPIO0_C7_d, AD37 XIN24M, AD38 XOUT24M, AF37 GPIO0_A4_u, AF38 GPIO0_A7_u, AG37 GPIO0_A5_d, AG38 nPOR_u, AJ37 GPIO0_B1_u, AJ38 GPIO0_A6_d, AK37 GPIO0_B3_u, AK38 GPIO0_B2_u, AM37 GPIO0_C2_d, AM38 GPIO0_B4_u, AN37 GPIO0_C4_d, AN38 GPIO0_C3_d
part E pins: 1A13 GPIO1_A4_d, 1A14 GPIO1_A6_d, 1A15 GPIO1_D0_d, 1A16 GPIO1_C6_d, 1A17 GPIO1_D1_u, 1A18 GPIO1_D2_u, 1A20 GPIO2_A6_u, 1B13 GPIO1_B0_d, 1B14 GPIO1_B3_d, 1B16 GPIO1_C7_d, 1B17 GPIO1_D3_u, 1B20 GPIO2_C4_d, 1C13 VCCIO2, 1C15 GPIO1_D4_u, 1C19 GPIO2_A3_u, 1C20 GPIO2_B3_u, 1D13 VCCIO1, 1D18 GPIO2_A5_u, 1D19 GPIO2_C3_d, 1D20 GPIO1_D7_u, 1E16 VCCIO4, 1E18 GPIO2_A4_u, 1E19 GPIO2_A1_u, 1E20 GPIO1_D5_u, 1F17 VCCIO3, 1F18 GPIO2_A0_u, 1F19 GPIO1_D6_u, A22 GPIO1_A0_u, A23 GPIO1_A2_d, A26 GPIO1_B1_d, A27 GPIO1_C4_u, A29 GPIO1_C5_d, A30 GPIO1_C1_u, A32 GPIO1_B4_u, A33 GPIO1_C3_u, A35 GPIO2_B1_d, A37 GPIO2_C0_d, B22 GPIO1_A1_u, B23 GPIO1_A3_d, B24 GPIO1_A5_d, B25 GPIO1_A7_d, B26 GPIO1_B2_d, B27 GPIO1_B5_u, B29 GPIO1_B7_u, B30 GPIO1_C2_u, B32 GPIO1_B6_u, B33 GPIO1_C0_u, B34 GPIO2_B2_u, B35 GPIO2_A7_u, B36 GPIO2_C1_d, B37 GPIO2_B0_d, B38 GPIO2_C6_d, C37 GPIO2_C2_d, D37 GPIO2_C5_d, D38 GPIO2_B7_d, F37 GPIO2_B5_u, F38 GPIO2_B4_u, G37 GPIO2_B6_u, G38 GPIO2_A2_d
part F pins: 1A19 SARADC_VIN3, 1B18 SARADC_VIN2, 1C17 SARADC_VIN1, 1D15 OTP_VCC18, 1D16 SARADC_AVDD_1V8, 1D17 SARADC_VIN0, 1L1 GPIO4_B6_d, 1L2 GPIO4_B0_d, 1L4 VCCIO6_1, 1L5 VCCIO6_2, 1N1 GPIO4_A7_d, 1N2 GPIO4_A4_d, 1N5 VCCIO5_1, 1N6 VCCIO5_2, 1N8 VCCIO7, 1P2 GPIO4_A1_d, 1P3 GPIO3_C4_d, 1P4 GPIO3_C5_d, 1R1 GPIO4_A2_d, 1R2 GPIO3_D4_d, 1T1 GPIO3_D5_d, 1T2 GPIO3_C6_d, 1T4 GPIO3_B5_d, 1T6 GPIO4_C6_d, 1U1 GPIO3_C7_d, 1U3 GPIO3_B4_d, 1U4 GPIO3_A6_d, 1U5 GPIO3_A1_d, 1U6 GPIO4_C5_d, 1U7 GPIO4_C2_d, 1V2 GPIO3_B6_d, 1V3 GPIO3_A7_d, 1V5 GPIO4_D1_u, 1V6 GPIO4_C4_d, AB1 GPIO4_C1_d, AB2 GPIO4_C0_d, AC2 GPIO4_B7_d, AD1 GPIO4_B5_d, AE2 GPIO4_B3_d, AF1 GPIO4_B4_d, AF2 GPIO4_B2_d, AG2 GPIO4_B1_d, AH2 GPIO4_A6_d, AJ1 GPIO4_A5_d, AJ2 GPIO4_A3_d, AK2 GPIO4_A0_d, AL1 GPIO3_D7_d, AL2 GPIO3_D6_d, AM1 GPIO3_D3_d, AM2 GPIO3_D2_d, AN2 GPIO3_D1_d, AP1 GPIO3_D0_d, AP3 GPIO3_C2_d, AP4 GPIO3_C1_d, AP5 GPIO3_B7_d, AP6 GPIO3_B3_d, AP7 GPIO3_B1_d, AP9 GPIO3_A5_d, AP10 GPIO3_A3_d, AP11 GPIO4_D0_u, AP12 GPIO4_C3_d, AR2 GPIO3_C3_d, AR4 GPIO3_C0_d, AR6 GPIO3_B2_d, AR7 GPIO3_B0_d, AR9 GPIO3_A4_d, AR10 GPIO3_A2_d, AR12 GPIO4_C7_u
part G pins: 1N9 MIPI_CSI_RX_AVDD_0V9, 1N10 MIPI_DSI_TX1_AVDD_0V9, 1N13 HDMI_TX_AVDD_0V9_2, 1N14 HDMI_TX_AVDD_0V9_1, 1P9 MIPI_CSI_RX_AVDD_1V8, 1P11 MIPI_DSI_TX0/LVDS_TX0_AVDD_0V9, 1P12 MIPI_DSI_TX0/LVDS_TX0_AVDD_1V8, 1P13 HDMI_TX_AVDD_1V8, 1R10 MIPI_DSI_TX1_AVDD_1V8, 1U8 MIPI_CSI_RX_CLK1N, 1U9 MIPI_CSI_RX_CLK0N, 1U11 MIPI_DSI_TX1_CLKN, 1U16 HDMI_TX_REXT, 1V8 MIPI_CSI_RX_CLK1P, 1V9 MIPI_CSI_RX_CLK0P, 1V11 MIPI_DSI_TX1_CLKP, 1V15 MIPI_DSI_TX0_CLKN/LVDS_TX0_CLKN, 1V16 MIPI_DSI_TX0_CLKP/LVDS_TX0_CLKP, 1V17 HDMI_TX_HPDIN, AP14 MIPI_CSI_RX_D3N, AP15 MIPI_CSI_RX_D2P, AP17 MIPI_CSI_RX_D1N, AP18 MIPI_CSI_RX_D0P, AP20 MIPI_DSI_TX1_D3N, AP21 MIPI_DSI_TX1_D2P, AP23 MIPI_DSI_TX1_D1N, AP24 MIPI_DSI_TX1_D0P, AP26 MIPI_DSI_TX0_D3N/LVDS_TX0_D3N, AP27 MIPI_DSI_TX0_D2P/LVDS_TX0_D2P, AP29 MIPI_DSI_TX0_D1N/LVDS_TX0_D1N, AP30 MIPI_DSI_TX0_D0P/LVDS_TX0_D0P, AP32 HDMI_TX_CLKN, AP33 HDMI_TX_D0P, AP35 HDMI_TX_D1N, AP36 HDMI_TX_D2P, AR14 MIPI_CSI_RX_D3P, AR15 MIPI_CSI_RX_D2N, AR17 MIPI_CSI_RX_D1P, AR18 MIPI_CSI_RX_D0N, AR20 MIPI_DSI_TX1_D3P, AR21 MIPI_DSI_TX1_D2N, AR23 MIPI_DSI_TX1_D1P, AR24 MIPI_DSI_TX1_D0N, AR26 MIPI_DSI_TX0_D3P/LVDS_TX0_D3P, AR27 MIPI_DSI_TX0_D2N/LVDS_TX0_D2N, AR29 MIPI_DSI_TX0_D1P/LVDS_TX0_D1P, AR30 MIPI_DSI_TX0_D0N/LVDS_TX0_D0N, AR32 HDMI_TX_CLKP, AR33 HDMI_TX_D0N, AR35 HDMI_TX_D1P, AR36 HDMI_TX_D2N
part H pins: 1G17 EDP_TX_AVDD_1V8, 1H16 USB_AVDD1_1V8, 1H17 EDP_TX_AVDD_0V9, 1H18 USB_AVDD1_3V3, 1H19 EDP_TX_AUXP, 1H20 EDP_TX_AUXN, 1J2 USB_AVDD2_3V3, 1J3 USB_AVDD2_1V8, 1J4 USB_AVDD2_0V9, 1J17 USB_AVDD1_0V9, 1J19 USB_HOST1_DP, 1J20 USB_HOST1_DM, 1K16 MULTI_PHY_AVDD_0V9, 1K17 MULTI_PHY_AVDD_1V8, 1K19 PCIE20_REFCLKP, 1K20 PCIE20_REFCLKN, AA37 PCIE20_TXP/SATA2_TXP, AA38 PCIE20_TXN/SATA2_TXN, AB37 PCIE20_RXP/SATA2_RXP, AB38 PCIE20_RXN/SATA2_RXN, J37 EDP_TX_D0P, J38 EDP_TX_D0N, K37 EDP_TX_D1N, K38 EDP_TX_D1P, M37 EDP_TX_D2P, M38 EDP_TX_D2N, N37 EDP_TX_D3P, N38 EDP_TX_D3N, R37 USB_OTG0_DP, R38 USB_OTG0_DM, T37 USB_OTG0_ID, T38 USB_OTG0_VBUSDET, V1 USB_HOST2_DM, V2 USB_HOST2_DP, V37 USB3_HOST1_SSRXN/SATA1_RXN, V38 USB3_HOST1_SSRXP/SATA1_RXP, W37 USB3_HOST1_SSTXP/SATA1_TXP, W38 USB3_HOST1_SSTXN/SATA1_TXN, Y1 USB_HOST3_DM, Y2 USB_HOST3_DP

## RT8010GQW
designator U?  (value not drawn)
DC-DC 同步整流BUCK芯片; Manufacturer: RICHTEK(立锜); Add into BOM: yes; Function: 降压型; Switch tube (built-in/external): 内置; Symbol: RT8010GQW; Device: RT8010GQW; Supplier: LCSC; Manufacturer Part: RT8010GQW; Supplier Part: C130803; JLCPCB Part Class: Extended Part; LCSC Part Name: RT8010GQW; Supplier Footprint: WDFN-6-EP(2x2); Datasheet: https://atta.szlcsc.com/upload/public/pdf/source/20170918/C130803_1505703416972975329.pdf; Convert to PCB: yes; Input Voltage: -; Output Current (Max): -; Switching Frequency: -; Synchronous Rectification: -; Number of Outputs: -; Topology: -
footprint WDFN-6_L2.0-W2.0-P0.65-BL-EP
pins: 1 IC, 2 EN, 3 VIN, 4 LX, 5 GND, 6 FB/VOUT, 7 EP

## SER2000扁铜线功率电感
designator L?, comment 10uH
扁铜线功率电感; L: 10uh
footprint SER_2000
pins: 1 2, 2 1

## SER2900扁铜线功率电感
designator L?, comment 10uH
扁铜线功率电感; L: 10uh
footprint SER-2900
pins: 1 2, 2 1

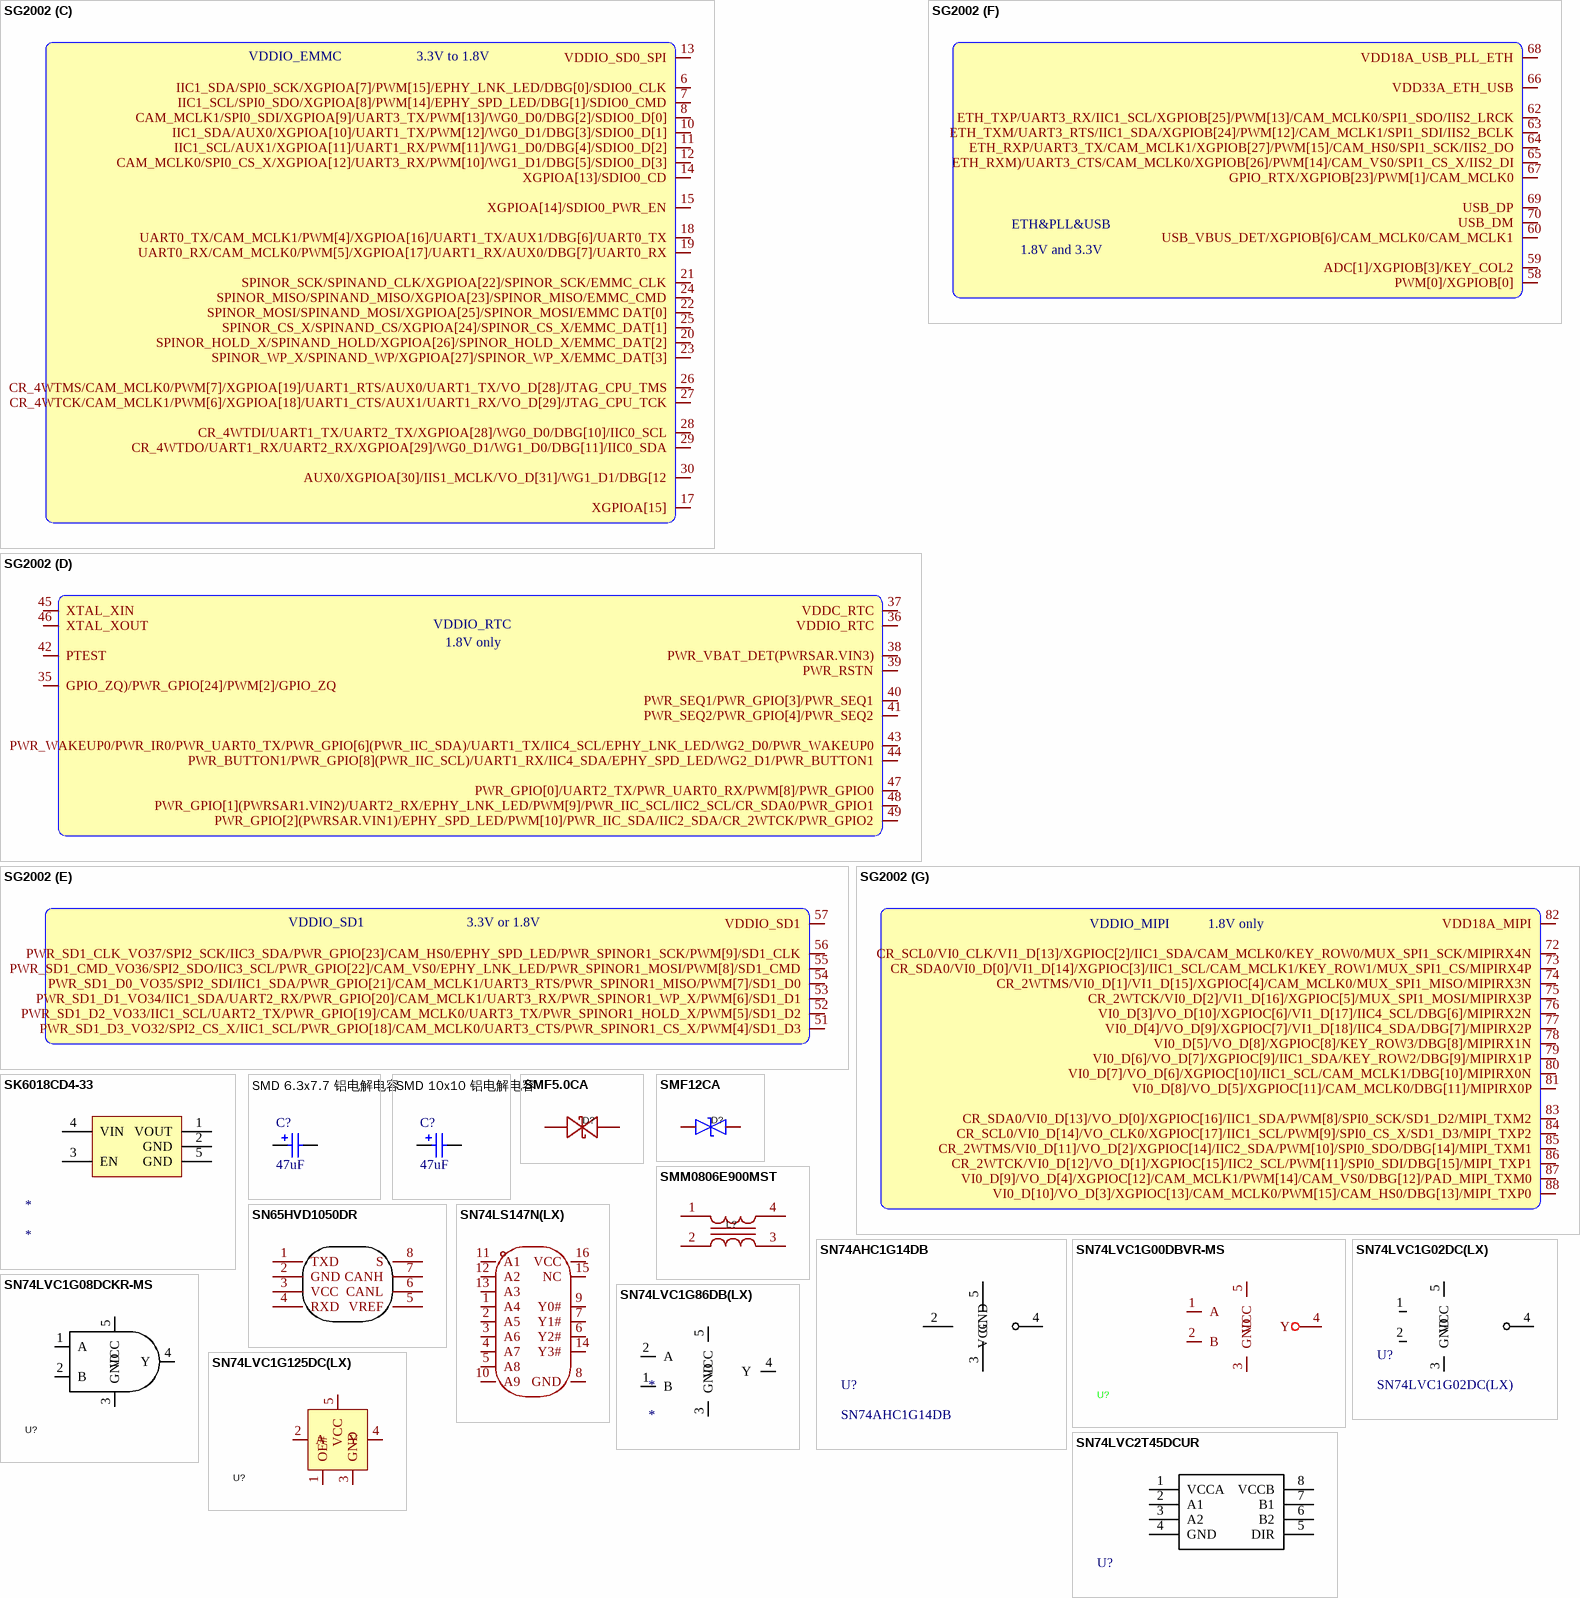
[diagram p15: symbols SG2002 to SN74LVC2T45DCUR]

## SG2002
designator U?  (value not drawn)
SOC,Cortex-A53+RISC-V C906@1Ghz,1 TOPS NPU; Manufacturer: Allwinner(全志); Symbol: V851S; Add into BOM: yes; Device: V851s; LCSC Part Name: Allwinner V851s; Supplier Part: C5365286; Manufacturer Part: V851s; Supplier Footprint: QFN-88; JLCPCB Part Class: Extended Part; Datasheet: https://atta.szlcsc.com/upload/public/pdf/source/20230321/D7FD75EFFC81CFF72930135A0F42A003.pdf; Supplier: LCSC; Convert to PCB: yes
footprint QFN-88_L9.0-W9.0-P0.35-TL-EP6.5
3D model QFN-88_L9.0-W9.0-P0.35-TL-EP6.5
part A pins: 9 VDDC, 16 VDDC, 31 VDDQ_DRAM, 32 VDDQ, 33 VDDQ, 34 VDDQ_DRAM, 50 VDDC, 61 VDDC, 71 VDDC, 89 EP
part B pins: 1 VSS18A_AUD, 2 AUD_AINL_MIC/XGPIOC[23]/IIS1_BCLK/IIS2_BCLK, 3 PAD_AUD_AVREF, 4 AUD_AOUTR/XGPIOC[24]/IIS1_DI/IIS2_DO/IIS1_DO, 5 VDD18A_AUD
part C pins: 6 IIC1_SDA/SPI0_SCK/XGPIOA[7]/PWM[15]/EPHY_LNK_LED/DBG[0]/SDIO0_CLK, 7 IIC1_SCL/SPI0_SDO/XGPIOA[8]/PWM[14]/EPHY_SPD_LED/DBG[1]/SDIO0_CMD, 8 CAM_MCLK1/SPI0_SDI/XGPIOA[9]/UART3_TX/PWM[13]/WG0_D0/DBG[2]/SDIO0_D[0], 10 IIC1_SDA/AUX0/XGPIOA[10]/UART1_TX/PWM[12]/WG0_D1/DBG[3]/SDIO0_D[1], 11 IIC1_SCL/AUX1/XGPIOA[11]/UART1_RX/PWM[11]/WG1_D0/DBG[4]/SDIO0_D[2], 12 CAM_MCLK0/SPI0_CS_X/XGPIOA[12]/UART3_RX/PWM[10]/WG1_D1/DBG[5]/SDIO0_D[3], 13 VDDIO_SD0_SPI, 14 XGPIOA[13]/SDIO0_CD, 15 XGPIOA[14]/SDIO0_PWR_EN, 17 XGPIOA[15], 18 UART0_TX/CAM_MCLK1/PWM[4]/XGPIOA[16]/UART1_TX/AUX1/DBG[6]/UART0_TX, 19 UART0_RX/CAM_MCLK0/PWM[5]/XGPIOA[17]/UART1_RX/AUX0/DBG[7]/UART0_RX, 20 SPINOR_HOLD_X/SPINAND_HOLD/XGPIOA[26]/SPINOR_HOLD_X/EMMC_DAT[2], 21 SPINOR_SCK/SPINAND_CLK/XGPIOA[22]/SPINOR_SCK/EMMC_CLK, 22 SPINOR_MOSI/SPINAND_MOSI/XGPIOA[25]/SPINOR_MOSI/EMMC DAT[0], 23 SPINOR_WP_X/SPINAND_WP/XGPIOA[27]/SPINOR_WP_X/EMMC_DAT[3], 24 SPINOR_MISO/SPINAND_MISO/XGPIOA[23]/SPINOR_MISO/EMMC_CMD, 25 SPINOR_CS_X/SPINAND_CS/XGPIOA[24]/SPINOR_CS_X/EMMC_DAT[1], 26 CR_4WTMS/CAM_MCLK0/PWM[7]/XGPIOA[19]/UART1_RTS/AUX0/UART1_TX/VO_D[28]/JTAG_CPU_TMS, 27 CR_4WTCK/CAM_MCLK1/PWM[6]/XGPIOA[18]/UART1_CTS/AUX1/UART1_RX/VO_D[29]/JTAG_CPU_TCK, 28 CR_4WTDI/UART1_TX/UART2_TX/XGPIOA[28]/WG0_D0/DBG[10]/IIC0_SCL, 29 CR_4WTDO/UART1_RX/UART2_RX/XGPIOA[29]/WG0_D1/WG1_D0/DBG[11]/IIC0_SDA, 30 AUX0/XGPIOA[30]/IIS1_MCLK/VO_D[31]/WG1_D1/DBG[12
part D pins: 35 GPIO_ZQ)/PWR_GPIO[24]/PWM[2]/GPIO_ZQ, 36 VDDIO_RTC, 37 VDDC_RTC, 38 PWR_VBAT_DET(PWRSAR.VIN3), 39 PWR_RSTN, 40 PWR_SEQ1/PWR_GPIO[3]/PWR_SEQ1, 41 PWR_SEQ2/PWR_GPIO[4]/PWR_SEQ2, 42 PTEST, 43 PWR_WAKEUP0/PWR_IR0/PWR_UART0_TX/PWR_GPIO[6](PWR_IIC_SDA)/UART1_TX/IIC4_SCL/EPHY_LNK_LED/WG2_D0/PWR_WAKEUP0, 44 PWR_BUTTON1/PWR_GPIO[8](PWR_IIC_SCL)/UART1_RX/IIC4_SDA/EPHY_SPD_LED/WG2_D1/PWR_BUTTON1, 45 XTAL_XIN, 46 XTAL_XOUT, 47 PWR_GPIO[0]/UART2_TX/PWR_UART0_RX/PWM[8]/PWR_GPIO0, 48 PWR_GPIO[1](PWRSAR1.VIN2)/UART2_RX/EPHY_LNK_LED/PWM[9]/PWR_IIC_SCL/IIC2_SCL/CR_SDA0/PWR_GPIO1, 49 PWR_GPIO[2](PWRSAR.VIN1)/EPHY_SPD_LED/PWM[10]/PWR_IIC_SDA/IIC2_SDA/CR_2WTCK/PWR_GPIO2
part E pins: 51 PWR_SD1_D3_VO32/SPI2_CS_X/IIC1_SCL/PWR_GPIO[18]/CAM_MCLK0/UART3_CTS/PWR_SPINOR1_CS_X/PWM[4]/SD1_D3, 52 PWR_SD1_D2_VO33/IIC1_SCL/UART2_TX/PWR_GPIO[19]/CAM_MCLK0/UART3_TX/PWR_SPINOR1_HOLD_X/PWM[5]/SD1_D2, 53 PWR_SD1_D1_VO34/IIC1_SDA/UART2_RX/PWR_GPIO[20]/CAM_MCLK1/UART3_RX/PWR_SPINOR1_WP_X/PWM[6]/SD1_D1, 54 PWR_SD1_D0_VO35/SPI2_SDI/IIC1_SDA/PWR_GPIO[21]/CAM_MCLK1/UART3_RTS/PWR_SPINOR1_MISO/PWM[7]/SD1_D0, 55 PWR_SD1_CMD_VO36/SPI2_SDO/IIC3_SCL/PWR_GPIO[22]/CAM_VS0/EPHY_LNK_LED/PWR_SPINOR1_MOSI/PWM[8]/SD1_CMD, 56 PWR_SD1_CLK_VO37/SPI2_SCK/IIC3_SDA/PWR_GPIO[23]/CAM_HS0/EPHY_SPD_LED/PWR_SPINOR1_SCK/PWM[9]/SD1_CLK, 57 VDDIO_SD1
part F pins: 58 PWM[0]/XGPIOB[0], 59 ADC[1]/XGPIOB[3]/KEY_COL2, 60 USB_VBUS_DET/XGPIOB[6]/CAM_MCLK0/CAM_MCLK1, 62 ETH_TXP/UART3_RX/IIC1_SCL/XGPIOB[25]/PWM[13]/CAM_MCLK0/SPI1_SDO/IIS2_LRCK, 63 ETH_TXM/UART3_RTS/IIC1_SDA/XGPIOB[24]/PWM[12]/CAM_MCLK1/SPI1_SDI/IIS2_BCLK, 64 ETH_RXP/UART3_TX/CAM_MCLK1/XGPIOB[27]/PWM[15]/CAM_HS0/SPI1_SCK/IIS2_DO, 65 ETH_RXM)/UART3_CTS/CAM_MCLK0/XGPIOB[26]/PWM[14]/CAM_VS0/SPI1_CS_X/IIS2_DI, 66 VDD33A_ETH_USB, 67 GPIO_RTX/XGPIOB[23]/PWM[1]/CAM_MCLK0, 68 VDD18A_USB_PLL_ETH, 69 USB_DP, 70 USB_DM
part G pins: 72 CR_SCL0/VI0_CLK/VI1_D[13]/XGPIOC[2]/IIC1_SDA/CAM_MCLK0/KEY_ROW0/MUX_SPI1_SCK/MIPIRX4N, 73 CR_SDA0/VI0_D[0]/VI1_D[14]/XGPIOC[3]/IIC1_SCL/CAM_MCLK1/KEY_ROW1/MUX_SPI1_CS/MIPIRX4P, 74 CR_2WTMS/VI0_D[1]/VI1_D[15]/XGPIOC[4]/CAM_MCLK0/MUX_SPI1_MISO/MIPIRX3N, 75 CR_2WTCK/VI0_D[2]/VI1_D[16]/XGPIOC[5]/MUX_SPI1_MOSI/MIPIRX3P, 76 VI0_D[3]/VO_D[10]/XGPIOC[6]/VI1_D[17]/IIC4_SCL/DBG[6]/MIPIRX2N, 77 VI0_D[4]/VO_D[9]/XGPIOC[7]/VI1_D[18]/IIC4_SDA/DBG[7]/MIPIRX2P, 78 VI0_D[5]/VO_D[8]/XGPIOC[8]/KEY_ROW3/DBG[8]/MIPIRX1N, 79 VI0_D[6]/VO_D[7]/XGPIOC[9]/IIC1_SDA/KEY_ROW2/DBG[9]/MIPIRX1P, 80 VI0_D[7]/VO_D[6]/XGPIOC[10]/IIC1_SCL/CAM_MCLK1/DBG[10]/MIPIRX0N, 81 VI0_D[8]/VO_D[5]/XGPIOC[11]/CAM_MCLK0/DBG[11]/MIPIRX0P, 82 VDD18A_MIPI, 83 CR_SDA0/VI0_D[13]/VO_D[0]/XGPIOC[16]/IIC1_SDA/PWM[8]/SPI0_SCK/SD1_D2/MIPI_TXM2, 84 CR_SCL0/VI0_D[14]/VO_CLK0/XGPIOC[17]/IIC1_SCL/PWM[9]/SPI0_CS_X/SD1_D3/MIPI_TXP2, 85 CR_2WTMS/VI0_D[11]/VO_D[2]/XGPIOC[14]/IIC2_SDA/PWM[10]/SPI0_SDO/DBG[14]/MIPI_TXM1, 86 CR_2WTCK/VI0_D[12]/VO_D[1]/XGPIOC[15]/IIC2_SCL/PWM[11]/SPI0_SDI/DBG[15]/MIPI_TXP1, 87 VI0_D[9]/VO_D[4]/XGPIOC[12]/CAM_MCLK1/PWM[14]/CAM_VS0/DBG[12]/PAD_MIPI_TXM0, 88 VI0_D[10]/VO_D[3]/XGPIOC[13]/CAM_MCLK0/PWM[15]/CAM_HS0/DBG[13]/MIPI_TXP0
part B text: 1.8V only
part C text: VDDIO_EMMC; 3.3V to 1.8V
part D text: 1.8V only
part E text: 3.3V or 1.8V
part F text: ETH&PLL&USB; 1.8V and 3.3V
part G text: VDDIO_MIPI; 1.8V only

## SK6018CD4-33
designator *
footprint DFN-4_L1.0-W1.0-P0.65-BL-EP
pins: 1 VOUT, 2 GND, 3 EN, 4 VIN, 5 GND

## SMD 6.3x7.7 铝电解电容
designator C?, comment value 47uF  (hidden comment: 铝电解电容)
SMD 6.3x7.7 铝电解电容; Published: 8-Jun-2000; LatestRevisionDate: 29-May-2009; LatestRevisionNote: IPC-7351 Footprint Added.; PackageReference: C0805; Publisher: Altium Limited; PackageDescription: Chip Capacitor
footprint CAP-SMD_BD6.3-L6.6-W6.6-FD
pins: 1, 2
1 alternate drawing of the same symbol

## SMD 10x10 铝电解电容
designator C?, comment value 47uF  (hidden comment: 铝电解电容)
SMD 10x10 铝电解电容; Published: 8-Jun-2000; LatestRevisionDate: 29-May-2009; LatestRevisionNote: IPC-7351 Footprint Added.; PackageReference: C0805; Publisher: Altium Limited; PackageDescription: Chip Capacitor
footprint C10X10
pins: 1, 2
1 alternate drawing of the same symbol

## SMF5.0CA
designator D?  (value not drawn)
5V TVS; Manufacturer: 宏迦橙; Symbol: SMF5.0CA_C19077498; Add into BOM: yes; polarity: 双向; Maximum Clamping Voltage: 9.2V; Peak Pulse Current (Ipp): 21.7A; Peak Pulse Power Dissipation (Ppp): 200W; Breakdown Voltage: 6.4V; Reverse Leakage Current (Ir): 400uA; Number of Lines: 单路; Device: SMF5.0CA_C19077498; LCSC Part Name: SMF5.0CA; Supplier Part: C19077498; Manufacturer Part: SMF5.0CA; Supplier Footprint: SOD-123FL; JLCPCB Part Class: Extended Part; Datasheet: https://atta.szlcsc.com/upload/public/pdf/source/20241029/BBF9A11676F655A5C9D4546A153AB943.pdf; Supplier: LCSC; Convert to PCB: yes; Reverse Stand-Off Voltage (Vrwm): 5V; Operating Temperature: -55℃~+155℃; level of protection: -; Type: TVS; Junction Capacitance: -
footprint SOD-123FL_L2.7-W1.8-LS3.8-BI
3D model SOD-123FL_L2.7-W1.8-LS3.8-BI
pins: 1 A, 2 K

## SMF12CA
designator D?  (value not drawn)
12V双向TVS; Manufacturer: 宏迦橙; Symbol: SMF12CA_C19077507; Add into BOM: yes; polarity: 双向; Reverse Stand-Off Voltage (Vrwm): 12V; Maximum Clamping Voltage: 19.9V; Peak Pulse Current (Ipp)@10/1000us: 10.1A; Peak Pulse Power Dissipation (Ppp)@10/1000us: 200W; Breakdown Voltage: 14.7V; Reverse Leakage Current (Ir): 2.5uA; Type: TVS; Device: SMF12CA_C19077507; LCSC Part Name: SMF12CA; Supplier Part: C19077507; Manufacturer Part: SMF12CA; Supplier Footprint: SOD-123FL; JLCPCB Part Class: Extended Part; Datasheet: https://atta.szlcsc.com/upload/public/pdf/source/20231129/4813F17DC56F8B344A8D004597B3633C.pdf; Supplier: LCSC; Convert to PCB: yes; Operating Temperature: -55℃~+155℃
footprint SOD-123FL_L2.8-W1.8-LS3.7-BI
pins: 1, 2

## SMM0806E900MST
designator L?  (value not drawn)
共模滤波器 130mA 5V; Manufacturer: Sunltech(韩国顺磁); Add into BOM: yes; Number of Lines: 2; Impedance @ Frequency: 90Ω@100MHz; DC Resistance (DCR): 2.5Ω; Symbol: SMM0806E900MST; Device: SMM0806E900MST; LCSC Part Name: 两路 贴片共模滤波器 阻抗90Ω@100MHz; Supplier Part: C878392; Manufacturer Part: SMM0806E900MST; Supplier Footprint: SMD,0.85x0.65x0.45mm; JLCPCB Part Class: Extended Part; Datasheet: https://atta.szlcsc.com/upload/public/pdf/source/20201009/C878392_A2B93818D66957A1BEE7432FFC61C8C6.pdf; Supplier: LCSC; Convert to PCB: yes; Current Rating: 130mA; Voltage Rating - DC: 5V; Operating Temperature: -40℃~+85℃
footprint FILTER-SMD_4P-L0.9-W0.7-P0.50-BL
3D model FILTER-SMD_4P-L0.9-W0.7-P0.50-H0.5-BL
pins: 1, 2, 3, 4

## SN65HVD1050DR
designator U?  (value not drawn)
CAN芯片; Manufacturer: TI(德州仪器); Add into BOM: yes; Supply Voltage: 4.5V~5.5V; Supply Current: 50mA; Name: SN65HVD1050DR; Symbol: SN65HVD1050DR; Device: SN65HVD1050DR; LCSC Part Name: 4.5V~5.5V; Supplier Part: C14019; Manufacturer Part: SN65HVD1050DR; Supplier Footprint: SOIC-8; JLCPCB Part Class: Extended Part; Datasheet: https://www.ti.com/cn/lit/gpn/sn65hvd1050; Supplier: LCSC; Convert to PCB: yes; Type: 收发器; Operating Temperature: -40℃~+125℃
footprint SOIC-8_L4.9-W3.9-P1.27-LS6.0-BL
pins: 1 TXD, 2 GND, 3 VCC, 4 RXD, 5 VREF, 6 CANL, 7 CANH, 8 S

## SN74AHC1G14DB
designator U?
非门
footprint SOT-23-5_L3.0-W1.7-P0.95-LS2.8-BR
pins: 2 S, 3 GND, 4 S, 5 VCC

## SN74LS147N(LX)
designator U?  (value not drawn)
Manufacturer: LX(灵星芯微); Add into BOM: yes; Voltage Supply Source: 单电源; Supply Voltage: 2V~6V; Number of lines: 4~10; Sink Current: 5.2mA; Symbol: SN74LS147N(LX); Device: SN74LS147N(LX); LCSC Part Name: 集成电路; Supplier Part: C22384759; Manufacturer Part: SN74LS147N(LX); Supplier Footprint: DIP-16; JLCPCB Part Class: Extended Part; Datasheet: https://atta.szlcsc.com/upload/public/pdf/source/20240417/03D0E24505C68DE9706B4DD8F8640D77.pdf; Supplier: LCSC; Convert to PCB: yes; Type: 优先顺序编码器; Source Current: 5.2mA; Operating temperature: -40℃~+125℃
footprint PDIP-16_L19.3-W6.4-P2.54-LS7.94-BL
pins: 1 A4, 2 A5, 3 A6, 4 A7, 5 A8, 6 Y2#, 7 Y1#, 8 GND, 9 Y0#, 10 A9, 11 A1, 12 A2, 13 A3, 14 Y3#, 15 NC, 16 VCC

## SN74LVC1G00DBVR-MS
designator U?  (value not drawn)
Manufacturer: MSKSEMI(美森科); Add into BOM: yes; Logic Gate Type: 与非门; Number of Channels: 1; Supply Voltage: 1.65V~5.5V; Quiescent Current (Max): 100nA; Sink Current: 32mA; High Level Range (VIH): 1.7V; Propagation Delay Time: 10ns@5V,15pF; Symbol: SN74LVC1G00DBVR-MS; Device: SN74LVC1G00DBVR-MS; LCSC Part Name: SN74LVC1G00DBVR-MS; Supplier Part: C7434167; Manufacturer Part: SN74LVC1G00DBVR-MS; Supplier Footprint: SOT-23-5; JLCPCB Part Class: Extended Part; Datasheet: https://atta.szlcsc.com/upload/public/pdf/source/20230705/F0DF97837A6B5DF988D6359F95DAC35A.pdf; Supplier: LCSC; Convert to PCB: yes
footprint SOT-23-5_L3.0-W1.7-P0.95-LS2.8-BR
3D model SOT-23-5_L2.9-W1.6-H1.1-LS2.8-P0.95
pins: 1 A, 2 B, 3 GND, 4 Y, 5 VCC

## SN74LVC1G02DC(LX)
designator U?
或非门
footprint SOT-23-5_L3.0-W1.7-P0.95-LS2.8-BR
pins: 1, 2, 3 GND, 4, 5 VCC

## SN74LVC1G08DCKR-MS
designator U?  (value not drawn)
与门; Manufacturer: MSKSEMI(美森科); Add into BOM: yes; Number of Channels: 1; Supply Voltage: 1.65V~5.5V; Quiescent Current (Max): 100nA; Symbol: SN74LVC1G08DCKR-MS; Device: SN74LVC1G08DCKR-MS; LCSC Part Name: SN74LVC1G08DCKR-MS; Supplier Part: C7434174; Manufacturer Part: SN74LVC1G08DCKR-MS; Supplier Footprint: SC70-5; JLCPCB Part Class: Extended Part; Datasheet: https://atta.szlcsc.com/upload/public/pdf/source/20230705/DA6FC4AE2B49D87DCC34514968D67EEF.pdf; Supplier: LCSC; Convert to PCB: yes; Logic Gate Type: 与门
footprint SC-70-5_L2.1-W1.3-P0.65-LS2.1-BR
pins: 1 A, 2 B, 3 GND, 4 Y, 5 VCC

## SN74LVC1G86DB(LX)
designator *
footprint SOT-23-5_L3.0-W1.7-P0.95-LS2.8-BR
pins: 1 B, 2 A, 3 GND, 4 Y, 5 VCC

## SN74LVC1G125DC(LX)
designator U?  (value not drawn)
三态门; Manufacturer: LX(灵星芯微); Add into BOM: yes; output type: 三态; Supply Voltage: 1.65V~5.5V; Logic Family: 74LVC; Symbol: SN74LVC1G125DC(LX); Device: SN74LVC1G125DC(LX); LCSC Part Name: SN74LVC1G125DC(LX); Supplier Part: C22469933; Manufacturer Part: SN74LVC1G125DC(LX); Supplier Footprint: SOT-353; JLCPCB Part Class: Extended Part; Datasheet: https://atta.szlcsc.com/upload/public/pdf/source/20240621/391CEF99A0EBA793928BB0216C76CE21.pdf; Supplier: LCSC; Convert to PCB: yes
footprint SOT-353-5_L2.0-W1.3-P0.65-LS2.1-BR
pins: 1 OE#, 2 A, 3 GND, 4 Y, 5 VCC

## SN74LVC2T45DCUR
designator U?  (value not drawn)
SN74LVC2T45DCUR 双路可控双向三态门
footprint VSSOP-8_L2.4-W2.1-P0.50-LS3.2-BR
pins: 1 VCCA, 2 A1, 3 A2, 4 GND, 5 DIR, 6 B2, 7 B1, 8 VCCB

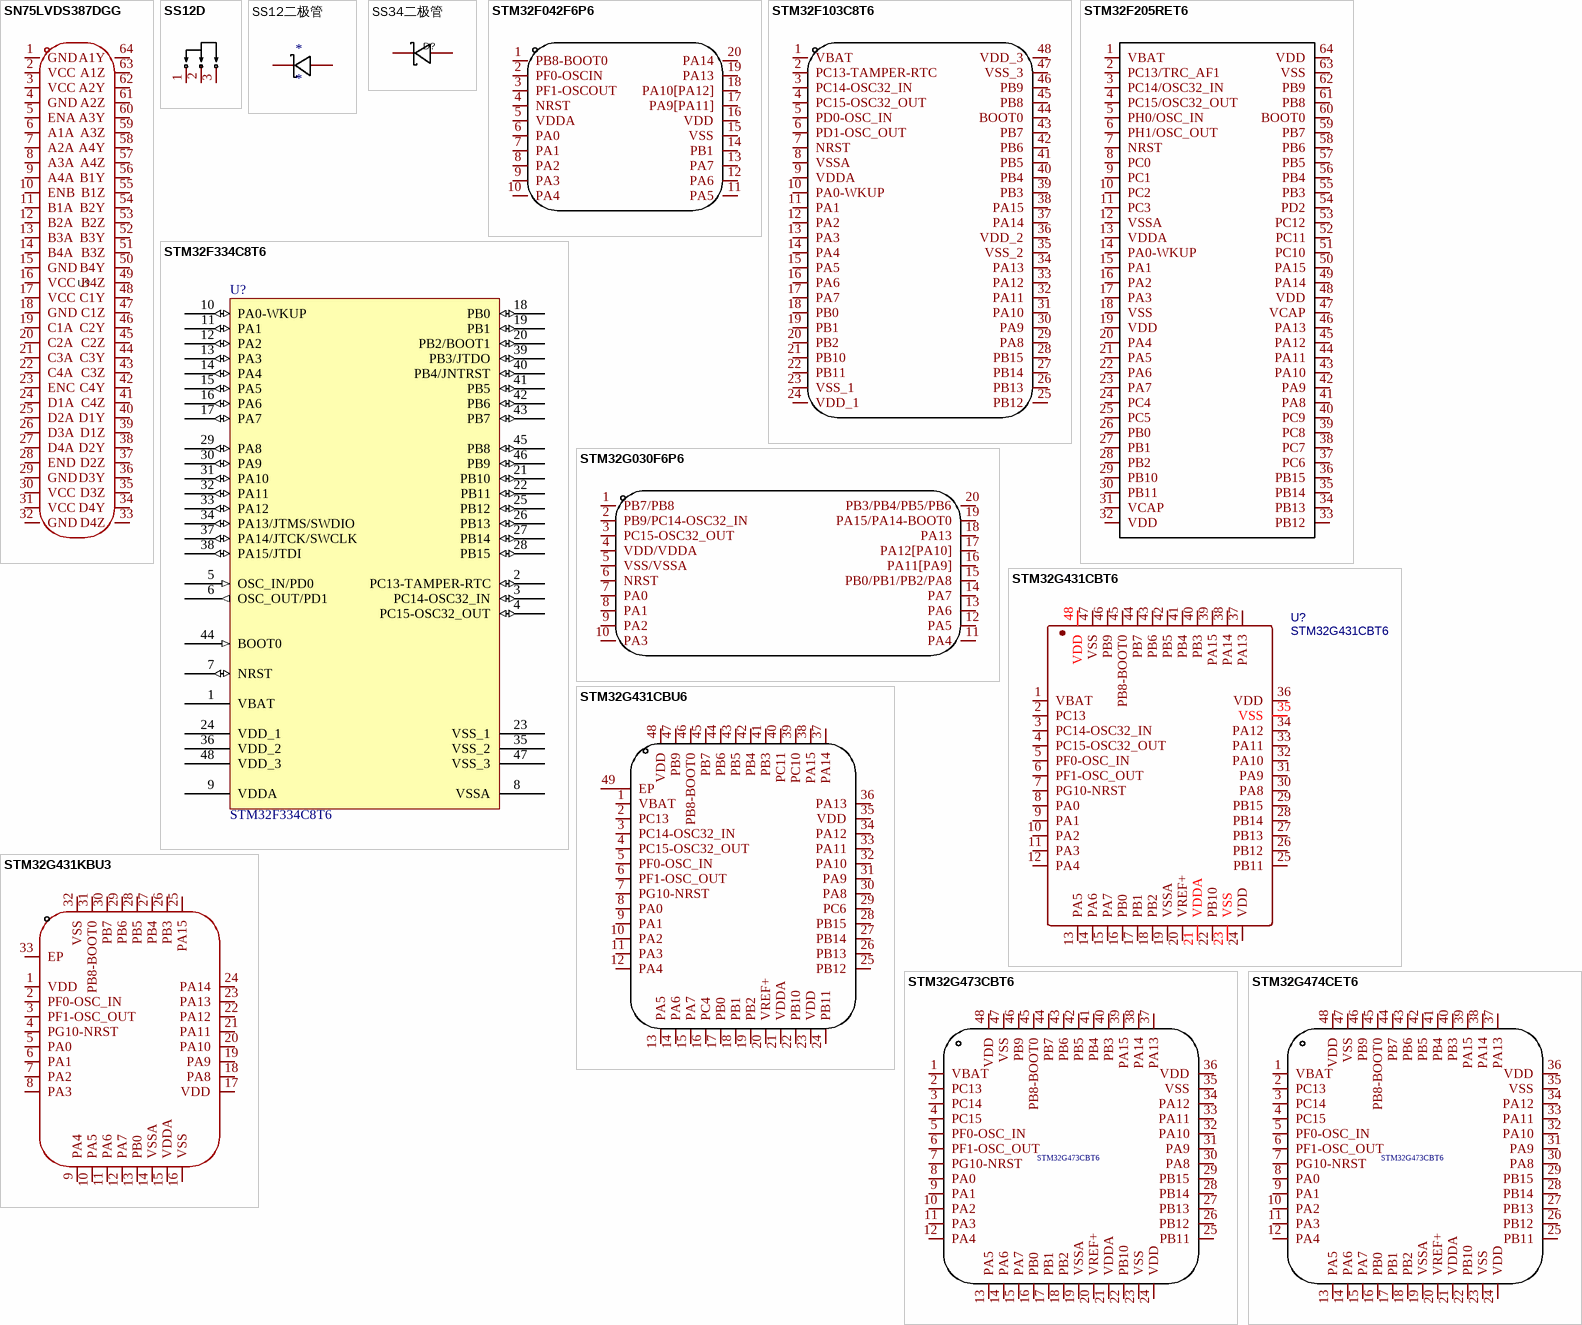
[diagram p16: symbols SN75LVDS387DGG to STM32G474CET6]

## SN75LVDS387DGG
designator U?  (value not drawn)
Manufacturer: TI(德州仪器); Add into BOM: yes; Symbol: SN75LVDS387DGG; Device: SN75LVDS387DGG; LCSC Part Name: SN75LVDS387DGG; Supplier Part: C1544917; Manufacturer Part: SN75LVDS387DGG; Supplier Footprint: TSSOP-64-6.1mm; JLCPCB Part Class: Extended Part; Datasheet: https://www.ti.com/cn/lit/gpn/sn75lvds389; Supplier: LCSC; Convert to PCB: yes
footprint TSSOP-64_L17.0-W6.1-P0.50-LS8.1-BL
pins: 1 GND, 2 VCC, 3 VCC, 4 GND, 5 ENA, 6 A1A, 7 A2A, 8 A3A, 9 A4A, 10 ENB, 11 B1A, 12 B2A, 13 B3A, 14 B4A, 15 GND, 16 VCC, 17 VCC, 18 GND, 19 C1A, 20 C2A, 21 C3A, 22 C4A, 23 ENC, 24 D1A, 25 D2A, 26 D3A, 27 D4A, 28 END, 29 GND, 30 VCC, 31 VCC, 32 GND, 33 D4Z, 34 D4Y, 35 D3Z, 36 D3Y, 37 D2Z, 38 D2Y, 39 D1Z, 40 D1Y, 41 C4Z, 42 C4Y, 43 C3Z, 44 C3Y, 45 C2Z, 46 C2Y, 47 C1Z, 48 C1Y, 49 B4Z, 50 B4Y, 51 B3Z, 52 B3Y, 53 B2Z, 54 B2Y, 55 B1Z, 56 B1Y, 57 A4Z, 58 A4Y, 59 A3Z, 60 A3Y, 61 A2Z, 62 A2Y, 63 A1Z, 64 A1Y

## SS12D
designator SW?, comment SS12D10G4 071  (value not drawn)
单刀双掷开关; Manufacturer: SHOU HAN(首韩); Add into BOM: yes; Circuit: 单刀双掷; Pin Style: PC引脚; Switch Length: 12.7mm; Switch Width: 6.7mm; Switch Height: 6.4mm; Current Rating (DC): 2A; Voltage Rating (DC): 125V; Mechanical Life: 3千次; Symbol: SS12D10G4 071; Device: SS12D10G4 071; Supplier: LCSC; Supplier Part: C2887259; Manufacturer Part: SS12D10G4 071; JLCPCB Part Class: Extended Part; LCSC Part Name: SS12D10G4 071; Supplier Footprint: 插件; Datasheet: https://atta.szlcsc.com/upload/public/pdf/source/20210820/80D1704BBF3FCEE0435FCAA54C61E0A3.pdf; Convert to PCB: yes; Actuator Style: -; Mounting Style: 直插; Actuator Color: -; Current Rating (AC): -; Voltage Rating (AC): -; Operating Temperature: -16℃~+60℃
footprint SW-TH_SHOU-HAN_SS12D10G4
pins: 1, 2, 3

## SS12二极管
designator *
footprint SMA (DO-214AC(2010))
pins: 1 K, 2 A

## SS34二极管
designator D?, comment SS34B  (value not drawn)
硝基特二极管; Manufacturer: MDD; Symbol: SS14; Device: SS14_C2480; Add into BOM: yes; Diode Configuration: 独立式; Forward Voltage (Vf@If): 550mV@1A; Reverse Voltage (Vr): 40V; Average Rectified Current (Io): 1A; Reverse Leakage Current (Ir): 500uA@40V; Supplier: LCSC; Manufacturer Part: SS14; Supplier Part: C2480; JLCPCB Part Class: Basic Part; LCSC Part Name: 电压:40V 电流:1A; Supplier Footprint: SMA(DO-214AC); Datasheet: https://atta.szlcsc.com/upload/public/pdf/source/20230712/2DB6064CFBB99DE6DB116BEE8208BE66.pdf; Convert to PCB: yes
footprint SMA_L4.3-W2.6-LS5.2-RD
pins: 1 K, 2 A

## STM32F042F6P6
designator U?  (value not drawn)
Manufacturer: ST(意法半导体); Add into BOM: yes; Core Processor: ARM® Cortex®-M0; Voltage - Supply (Vcc/Vdd): 1.65V ~ 3.6V; Program Memory Size: 32kB; RAM Size: 6KB; Number of I/O: 16; A/D: 9X12bit; PWM: 6; UART/USART: 2 USART; USB Device: 1; Name: STM32F042F6P6; Symbol: STM32F042F6P6; Device: STM32F042F6P6; LCSC Part Name: STM32F042F6P6; Supplier Part: C81000; Manufacturer Part: STM32F042F6P6; Supplier Footprint: TSSOP-20; JLCPCB Part Class: Extended Part; Datasheet: https://atta.szlcsc.com/upload/public/pdf/source/20161226/1482720143189.pdf; Supplier: LCSC; Convert to PCB: yes; CAN: 1; Features: I2S,HDMI CEC
3D model TSSOP-20_L6.5-W4.4-H1.0-LS6.4-P0.65
footprint TSSOP20
pins: 1 PB8-BOOT0, 2 PF0-OSCIN, 3 PF1-OSCOUT, 4 NRST, 5 VDDA, 6 PA0, 7 PA1, 8 PA2, 9 PA3, 10 PA4, 11 PA5, 12 PA6, 13 PA7, 14 PB1, 15 VSS, 16 VDD, 17 PA9[PA11], 18 PA10[PA12], 19 PA13, 20 PA14

## STM32F103C8T6
designator U?  (value not drawn)
Manufacturer: ST(意法半导体); Add into BOM: yes; CPU Core: ARM-M3; Program Storage Size: 64KB; RAM Size: 20KB; GPIO Ports Number: 37; Operating Voltage Range: 2V~3.6V; CPU Maximum Speed: 72MHz; Program Memory Type: FLASH; ADC (Bit): 12bit; Universal Serial Bus: 有; Peripheral/Function: 看门狗；DMA；看门狗；温度传感器; Name: STM32F103C8T6; Symbol: STM32F103C8T6; Device: STM32F103C8T6; LCSC Part Name: STM32F103C8T6; Supplier Part: C8734; Manufacturer Part: STM32F103C8T6; Supplier Footprint: LQFP-48(7x7); JLCPCB Part Class: Extended Part; Datasheet: https://atta.szlcsc.com/upload/public/pdf/source/20220812/8363ACEC51AD55ECEB84799464F7CB85.pdf; Supplier: LCSC; Convert to PCB: yes; Operating Temperature Range: -40℃~+85℃; DAC (Bit): -; PWM (Bit): -; Internal Comparator: -; communication protocol: -; Watchdog: 有; Real-Time Clock: -; Infrared Data Association: 有; Low-Voltage Detect: 有; CCP Capture/Compare: -; Secure Digital Input and Output: -; Direct Memory Access: 有; Internal Oscillator: 有
footprint LQFP48 7X7_N (48脚，体宽7x7mm，脚距0.5mm)
pins: 1 VBAT, 2 PC13-TAMPER-RTC, 3 PC14-OSC32_IN, 4 PC15-OSC32_OUT, 5 PD0-OSC_IN, 6 PD1-OSC_OUT, 7 NRST, 8 VSSA, 9 VDDA, 10 PA0-WKUP, 11 PA1, 12 PA2, 13 PA3, 14 PA4, 15 PA5, 16 PA6, 17 PA7, 18 PB0, 19 PB1, 20 PB2, 21 PB10, 22 PB11, 23 VSS_1, 24 VDD_1, 25 PB12, 26 PB13, 27 PB14, 28 PB15, 29 PA8, 30 PA9, 31 PA10, 32 PA11, 33 PA12, 34 PA13, 35 VSS_2, 36 VDD_2, 37 PA14, 38 PA15, 39 PB3, 40 PB4, 41 PB5, 42 PB6, 43 PB7, 44 BOOT0, 45 PB8, 46 PB9, 47 VSS_3, 48 VDD_3

## STM32F205RET6
designator U?  (value not drawn)
Manufacturer: ST(意法半导体); Add into BOM: yes; CPU Core: ARM-M3; Program Storage Size: 512KB; RAM Size: 132KB; GPIO Ports Number: 51; Operating Voltage Range: 1.8V~3.6V; CPU Maximum Speed: 120MHz; Program Memory Type: FLASH; ADC (Bit): 12bit; Universal Serial Bus: 有; Peripheral/Function: DMA；LCD/LED驱动；PWM; Symbol: stm32f205ret6; Device: STM32F205RET6; LCSC Part Name: 高性能ARM Cortex-M3 MCU，具有512 KB Flash、120 MHz CPU和ART加速器; Supplier Part: C66278; Manufacturer Part: STM32F205RET6; Supplier Footprint: LQFP-64(10x10); JLCPCB Part Class: Extended Part; Datasheet: https://atta.szlcsc.com/upload/public/pdf/source/20161108/1478586390909.pdf; Supplier: LCSC; Convert to PCB: yes; Operating Temperature Range: -40℃~+85℃; DAC (Bit): 12bit; PWM (Bit): -; Internal Comparator: -; communication protocol: -; Watchdog: 有; Real-Time Clock: -; Infrared Data Association: 有; Low-Voltage Detect: 有; CCP Capture/Compare: -; LCD Module: 有; Secure Digital Input and Output: -; Direct Memory Access: 有; Internal Oscillator: 有
footprint LQFP-64_L10.0-W10.0-P0.50-LS12.0-BL
pins: 1 VBAT, 2 PC13/TRC_AF1, 3 PC14/OSC32_IN, 4 PC15/OSC32_OUT, 5 PH0/OSC_IN, 6 PH1/OSC_OUT, 7 NRST, 8 PC0, 9 PC1, 10 PC2, 11 PC3, 12 VSSA, 13 VDDA, 14 PA0-WKUP, 15 PA1, 16 PA2, 17 PA3, 18 VSS, 19 VDD, 20 PA4, 21 PA5, 22 PA6, 23 PA7, 24 PC4, 25 PC5, 26 PB0, 27 PB1, 28 PB2, 29 PB10, 30 PB11, 31 VCAP, 32 VDD, 33 PB12, 34 PB13, 35 PB14, 36 PB15, 37 PC6, 38 PC7, 39 PC8, 40 PC9, 41 PA8, 42 PA9, 43 PA10, 44 PA11, 45 PA12, 46 PA13, 47 VCAP, 48 VDD, 49 PA14, 50 PA15, 51 PC10, 52 PC11, 53 PC12, 54 PD2, 55 PB3, 56 PB4, 57 PB5, 58 PB6, 59 PB7, 60 BOOT0, 61 PB8, 62 PB9, 63 VSS, 64 VDD

## STM32F334C8T6
designator U?
footprint LQFP48 7X7_N (48脚，体宽7x7mm，脚距0.5mm)
pins: 1 VBAT (power), 2 PC13-TAMPER-RTC (io), 3 PC14-OSC32_IN (io), 4 PC15-OSC32_OUT (io), 5 OSC_IN/PD0 (in), 6 OSC_OUT/PD1 (out), 7 NRST (io), 8 VSSA (power), 9 VDDA (power), 10 PA0-WKUP (io), 11 PA1 (io), 12 PA2 (io), 13 PA3 (io), 14 PA4 (io), 15 PA5 (io), 16 PA6 (io), 17 PA7 (io), 18 PB0 (io), 19 PB1 (io), 20 PB2/BOOT1 (io), 21 PB10 (io), 22 PB11 (io), 23 VSS_1 (power), 24 VDD_1 (power), 25 PB12 (io), 26 PB13 (io), 27 PB14 (io), 28 PB15 (io), 29 PA8 (io), 30 PA9 (io), 31 PA10 (io), 32 PA11 (io), 33 PA12 (io), 34 PA13/JTMS/SWDIO (io), 35 VSS_2 (power), 36 VDD_2 (power), 37 PA14/JTCK/SWCLK (io), 38 PA15/JTDI (io), 39 PB3/JTDO (io), 40 PB4/JNTRST (io), 41 PB5 (io), 42 PB6 (io), 43 PB7 (io), 44 BOOT0 (in), 45 PB8 (io), 46 PB9 (io), 47 VSS_3 (power), 48 VDD_3 (power)